# Altium schematic symbol library PowerProducts.SCHLIB: 595 symbols (part 1 of 6)
Pins are listed as number, name and electrical type; pins without a type are passive.

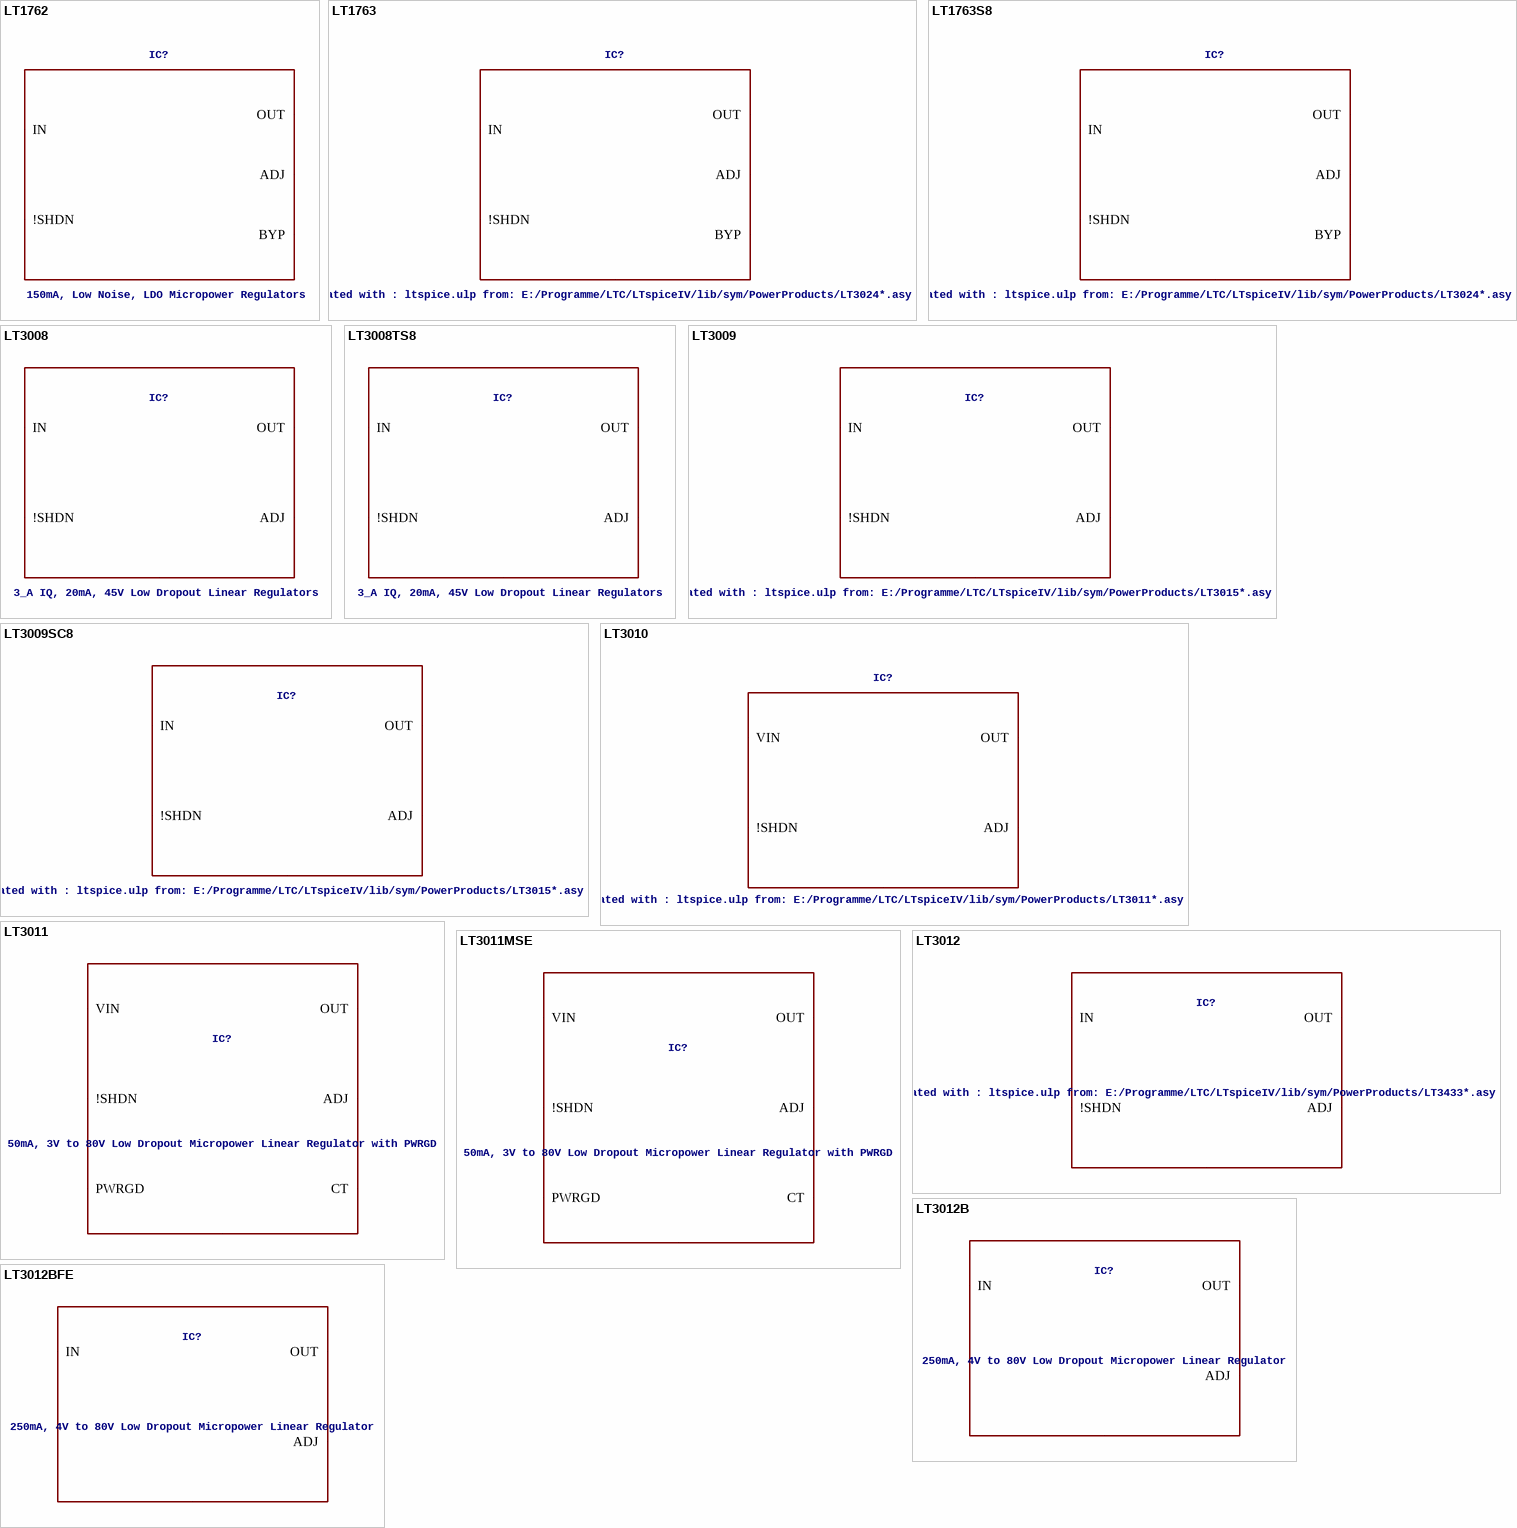
[diagram p0: symbols LT1762 to LT3012BFE]

## LT1762
designator IC?, comment 150mA, Low Noise, LDO Micropower Regulators
VALUE2: LT1762; SPICEMODEL: LT1762.lib; SPICEPREFIX: X
footprint MSOP8(MS8)
pins: 1 OUT, 2 ADJ, 3 BYP, 4 GND, 5 !SHDN, 8 IN

## LT1763
designator IC?, comment LT-Spice library generated with : ltspice.ulp from: E:/Programme/LTC/LTspiceIV/lib/sym/PowerProducts/LT3024*.asy at 05.10.2012 11:02:30
VALUE2: LT1762; SPICEMODEL: LT1762.lib; SPICEPREFIX: X
footprint DFN12(DE)
pins: 2 3 OUT, 5 ADJ, 6 BYP, 7 13 GND, 8 !SHDN, 10 11 IN

## LT1763S8
designator IC?, comment LT-Spice library generated with : ltspice.ulp from: E:/Programme/LTC/LTspiceIV/lib/sym/PowerProducts/LT3024*.asy at 05.10.2012 11:02:30
VALUE2: LT1762; SPICEMODEL: LT1762.lib; SPICEPREFIX: X
footprint SO8(S8)
pins: 1 OUT, 2 ADJ, 3 6 7 GND, 4 BYP, 5 !SHDN, 8 IN

## LT3008
designator IC?, comment 3_A IQ, 20mA, 45V Low Dropout Linear Regulators
VALUE2: LT1762; SPICEMODEL: LT1762.lib; SPICEPREFIX: X
footprint DFN6(DC)
pins: 1 ADJ, 2 3 OUT, 4 IN, 5 !SHDN, 6 7 GND

## LT3008TS8
designator IC?, comment 3_A IQ, 20mA, 45V Low Dropout Linear Regulators
VALUE2: LT1762; SPICEMODEL: LT1762.lib; SPICEPREFIX: X
footprint SOT8(TS8)
pins: 1 !SHDN, 2 3 4 GND, 5 IN, 6 OUT, 7 ADJ

## LT3009
designator IC?, comment LT-Spice library generated with : ltspice.ulp from: E:/Programme/LTC/LTspiceIV/lib/sym/PowerProducts/LT3015*.asy at 04.10.2012 16:24:12
VALUE2: LT1762; SPICEMODEL: LT1762.lib; SPICEPREFIX: X
footprint DFN6(DC)
pins: 1 ADJ, 2 3 OUT, 4 IN, 5 !SHDN, 6 7 GND

## LT3009SC8
designator IC?, comment LT-Spice library generated with : ltspice.ulp from: E:/Programme/LTC/LTspiceIV/lib/sym/PowerProducts/LT3015*.asy at 04.10.2012 16:24:12
VALUE2: LT1762; SPICEMODEL: LT1762.lib; SPICEPREFIX: X
footprint SOT8(SC8)
pins: 1 !SHDN, 2 3 4 GND, 5 IN, 6 OUT, 7 ADJ

## LT3010
designator IC?, comment LT-Spice library generated with : ltspice.ulp from: E:/Programme/LTC/LTspiceIV/lib/sym/PowerProducts/LT3011*.asy at 10.10.2012 15:22:15
VALUE2: LT3010; SPICEMODEL: LT3010.lib; SPICEPREFIX: X
footprint MSOP8(MS8E)
pins: 1 OUT, 2 ADJ, 4 9 GND, 5 !SHDN, 8 VIN

## LT3011
designator IC?, comment 50mA, 3V to 80V Low Dropout Micropower Linear Regulator with PWRGD
VALUE2: LT3011; SPICEMODEL: LT3010.lib; SPICEPREFIX: X
footprint DFN10(DD)
pins: 1 OUT, 2 ADJ, 3 11 GND, 5 PWRGD, 6 CT, 8 !SHDN, 10 VIN

## LT3011MSE
designator IC?, comment 50mA, 3V to 80V Low Dropout Micropower Linear Regulator with PWRGD
VALUE2: LT3011; SPICEMODEL: LT3010.lib; SPICEPREFIX: X
footprint MSOP12(MSE)
pins: 2 OUT, 3 ADJ, 4 13 GND, 6 PWRGD, 7 CT, 9 !SHDN, 11 VIN

## LT3012
designator IC?, comment LT-Spice library generated with : ltspice.ulp from: E:/Programme/LTC/LTspiceIV/lib/sym/PowerProducts/LT3433*.asy at 04.10.2012 16:36:49
VALUE2: LT1762; SPICEMODEL: LT1762.lib; SPICEPREFIX: X
footprint DFN12(DE)
pins: 2 3 OUT, 4 ADJ, 5 13 GND, 8 !SHDN, 10 11 IN

## LT3012B
designator IC?, comment 250mA, 4V to 80V Low Dropout Micropower Linear Regulator
VALUE2: LT1762; SPICEMODEL: LT1762.lib; SPICEPREFIX: X
footprint DFN12(DE)
pins: 2 3 OUT, 4 ADJ, 5 13 GND, 10 11 IN

## LT3012BFE
designator IC?, comment 250mA, 4V to 80V Low Dropout Micropower Linear Regulator
VALUE2: LT1762; SPICEMODEL: LT1762.lib; SPICEPREFIX: X
footprint TSSOP16BB(FE)
pins: 1 6 8 9 16 17 GND, 3 4 OUT, 5 ADJ, 13 14 IN

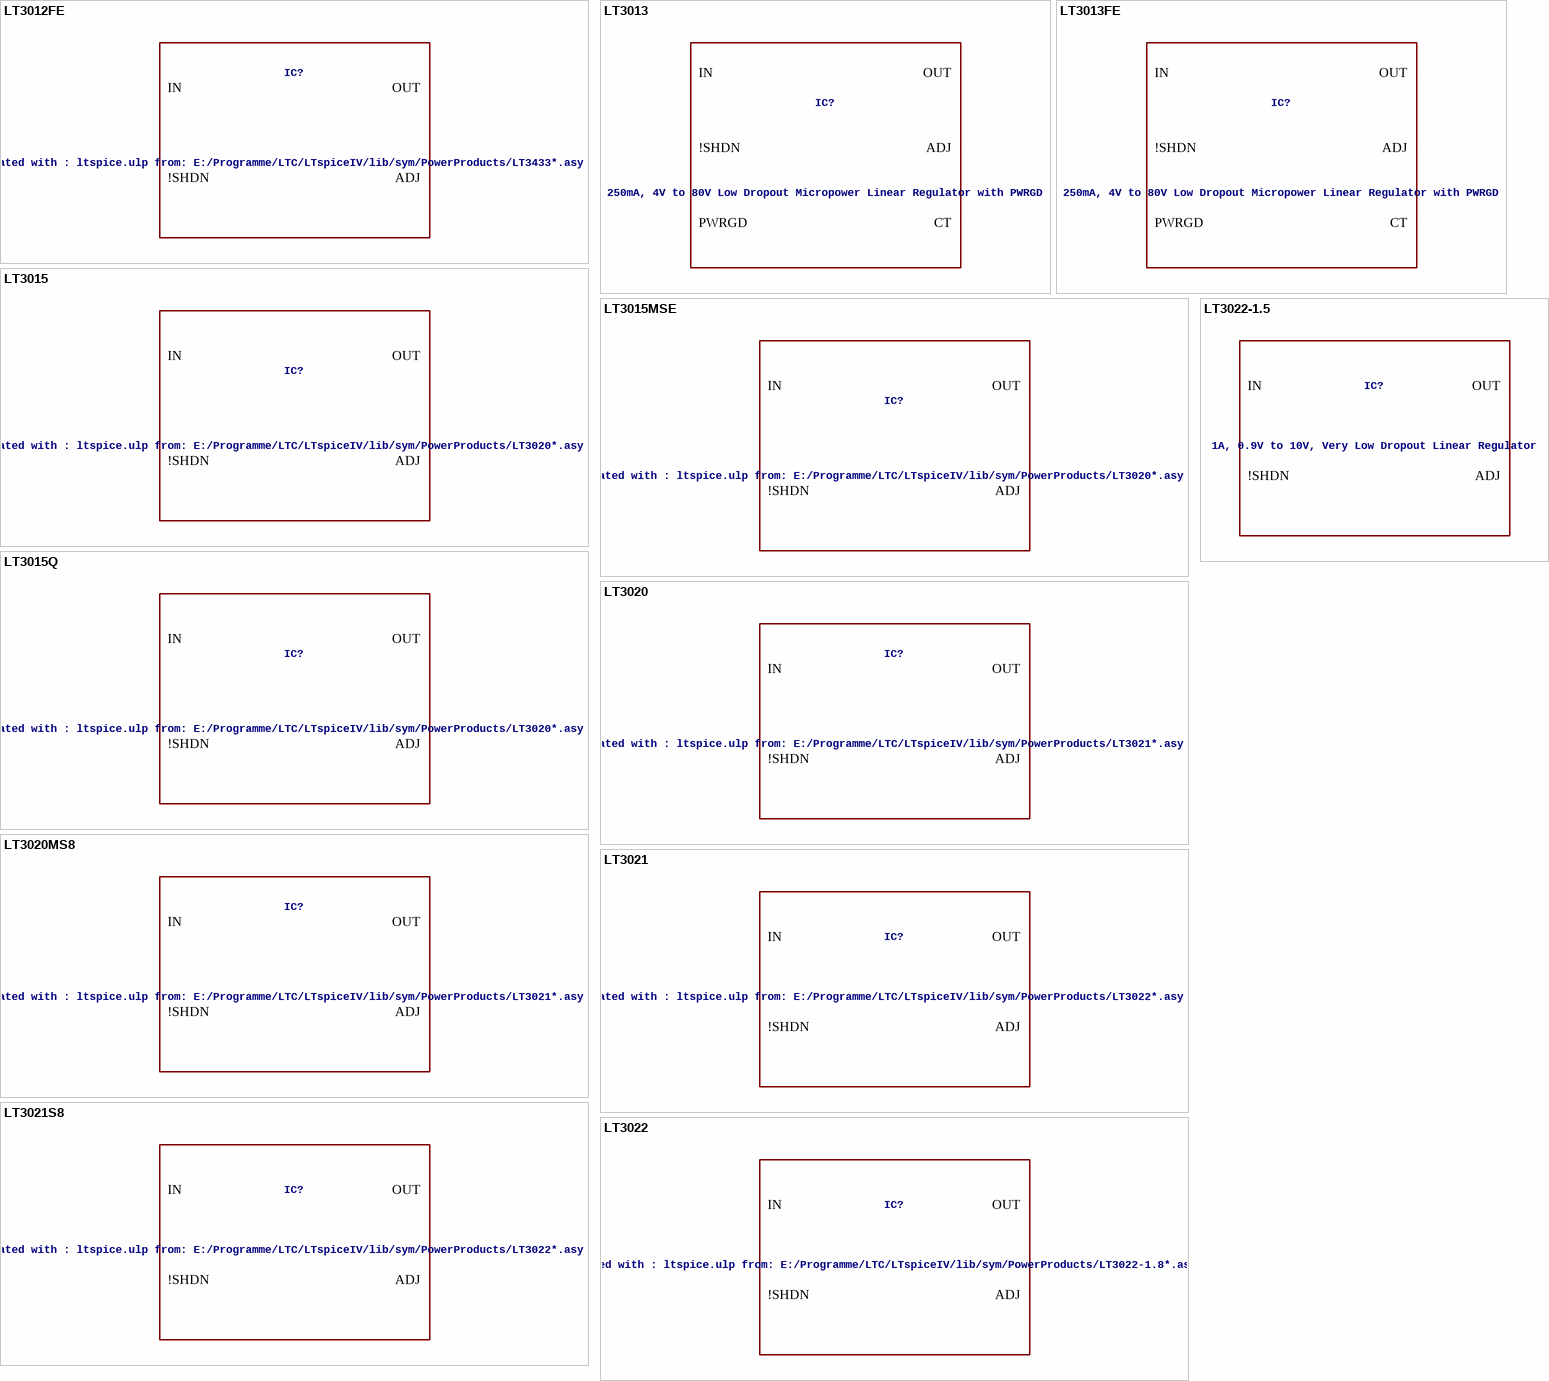
[diagram p1: symbols LT3012FE to LT3022-1.5]

## LT3012FE
designator IC?, comment LT-Spice library generated with : ltspice.ulp from: E:/Programme/LTC/LTspiceIV/lib/sym/PowerProducts/LT3433*.asy at 04.10.2012 16:36:49
VALUE2: LT1762; SPICEMODEL: LT1762.lib; SPICEPREFIX: X
footprint TSSOP16BB(FE)
pins: 1 6 8 9 16 17 GND, 3 4 OUT, 5 ADJ, 11 !SHDN, 13 14 IN

## LT3013
designator IC?, comment 250mA, 4V to 80V Low Dropout Micropower Linear Regulator with PWRGD
VALUE2: LT1762; SPICEMODEL: LT1762.lib; SPICEPREFIX: X
footprint DFN12(DE)
pins: 2 3 OUT, 4 ADJ, 5 13 GND, 6 PWRGD, 7 CT, 8 !SHDN, 10 11 IN

## LT3013FE
designator IC?, comment 250mA, 4V to 80V Low Dropout Micropower Linear Regulator with PWRGD
VALUE2: LT1762; SPICEMODEL: LT1762.lib; SPICEPREFIX: X
footprint TSSOP16BB(FE)
pins: 1 6 8 9 16 17 GND, 3 4 OUT, 5 ADJ, 7 PWRGD, 10 CT, 11 !SHDN, 13 14 IN

## LT3015
designator IC?, comment LT-Spice library generated with : ltspice.ulp from: E:/Programme/LTC/LTspiceIV/lib/sym/PowerProducts/LT3020*.asy at 04.10.2012 16:28:01
VALUE2: LT1762; SPICEMODEL: LT1762.lib; SPICEPREFIX: X
footprint DFN8(DD)
pins: 1 2 9 IN, 3 !SHDN, 4 5 GND, 6 ADJ, 7 8 OUT

## LT3015MSE
designator IC?, comment LT-Spice library generated with : ltspice.ulp from: E:/Programme/LTC/LTspiceIV/lib/sym/PowerProducts/LT3020*.asy at 04.10.2012 16:28:01
VALUE2: LT1762; SPICEMODEL: LT1762.lib; SPICEPREFIX: X
footprint MSOP12(MSE)
pins: 1 2 3 4 13 IN, 5 !SHDN, 6 7 GND, 8 ADJ, 9 10 11 12 OUT

## LT3015Q
designator IC?, comment LT-Spice library generated with : ltspice.ulp from: E:/Programme/LTC/LTspiceIV/lib/sym/PowerProducts/LT3020*.asy at 04.10.2012 16:28:01
VALUE2: LT1762; SPICEMODEL: LT1762.lib; SPICEPREFIX: X
footprint DDPAK5(Q)
pins: 1 !SHDN, 2 GND, 3 TAB IN, 4 ADJ, 5 OUT

## LT3020
designator IC?, comment LT-Spice library generated with : ltspice.ulp from: E:/Programme/LTC/LTspiceIV/lib/sym/PowerProducts/LT3021*.asy at 04.10.2012 16:28:37
VALUE2: LT1762; SPICEMODEL: LT1762.lib; SPICEPREFIX: X
footprint DFN8(DD)
pins: 1 2 OUT, 3 ADJ, 4 9 GND, 5 !SHDN, 7 8 IN

## LT3020MS8
designator IC?, comment LT-Spice library generated with : ltspice.ulp from: E:/Programme/LTC/LTspiceIV/lib/sym/PowerProducts/LT3021*.asy at 04.10.2012 16:28:37
VALUE2: LT1762; SPICEMODEL: LT1762.lib; SPICEPREFIX: X
footprint MSOP8(MS8)
pins: 1 2 OUT, 3 ADJ, 4 GND, 5 !SHDN, 7 8 IN

## LT3021
designator IC?, comment LT-Spice library generated with : ltspice.ulp from: E:/Programme/LTC/LTspiceIV/lib/sym/PowerProducts/LT3022*.asy at 04.10.2012 16:29:02
VALUE2: LT1762; SPICEMODEL: LT1762.lib; SPICEPREFIX: X
footprint DFN16(DHC)
pins: 3 4 OUT, 7 ADJ, 8 10 17 GND, 9 !SHDN, 12 14 IN

## LT3021S8
designator IC?, comment LT-Spice library generated with : ltspice.ulp from: E:/Programme/LTC/LTspiceIV/lib/sym/PowerProducts/LT3022*.asy at 04.10.2012 16:29:02
VALUE2: LT1762; SPICEMODEL: LT1762.lib; SPICEPREFIX: X
footprint SO8(S8)
pins: 2 OUT, 3 ADJ, 4 6 GND, 5 !SHDN, 8 IN

## LT3022
designator IC?, comment LT-Spice library generated with : ltspice.ulp from: E:/Programme/LTC/LTspiceIV/lib/sym/PowerProducts/LT3022-1.8*.asy at 04.10.2012 16:29:17
VALUE2: LT1762; SPICEMODEL: LT1762.lib; SPICEPREFIX: X
footprint DFN16(DHC)
pins: 3 4 OUT, 5 ADJ, 6 7 10 11 17 GND, 9 !SHDN, 12 13 14 IN

## LT3022-1.5
designator IC?, comment 1A, 0.9V to 10V, Very Low Dropout Linear Regulator
VALUE2: LT1762; SPICEMODEL: LT1762.lib; SPICEPREFIX: X
footprint MSOP16(MSE)
pins: 3 4 OUT, 5 ADJ, 6 7 10 11 17 GND, 9 !SHDN, 12 13 14 IN

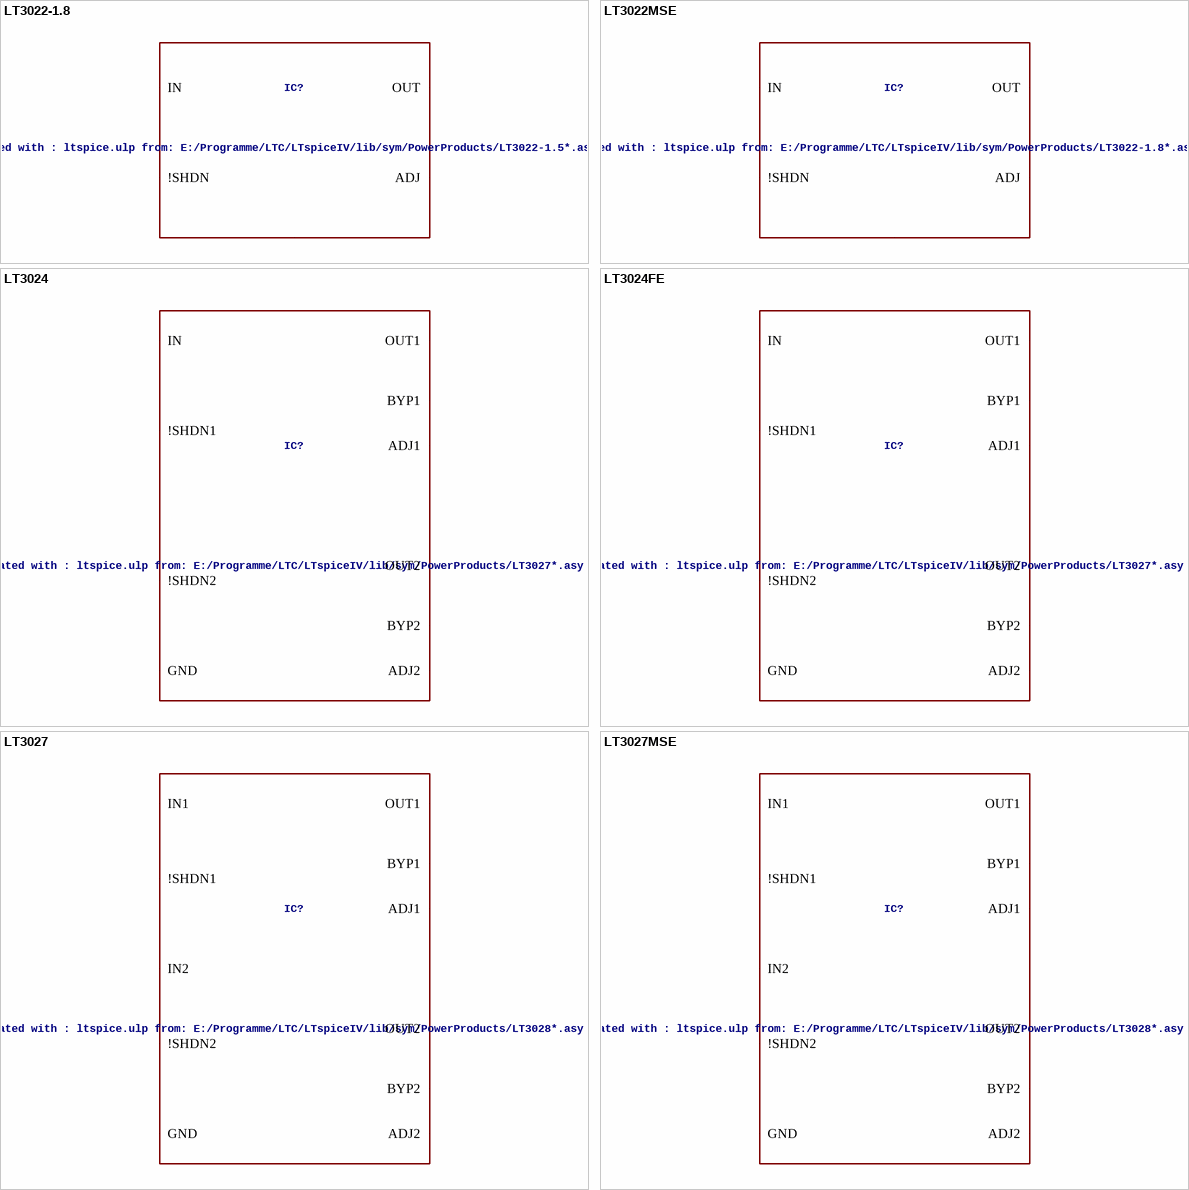
[diagram p2: symbols LT3022-1.8 to LT3027MSE]

## LT3022-1.8
designator IC?, comment LT-Spice library generated with : ltspice.ulp from: E:/Programme/LTC/LTspiceIV/lib/sym/PowerProducts/LT3022-1.5*.asy at 04.10.2012 16:29:40
VALUE2: LT1762; SPICEMODEL: LT1762.lib; SPICEPREFIX: X
footprint MSOP16(MSE)
pins: 3 4 OUT, 5 ADJ, 6 7 10 11 17 GND, 9 !SHDN, 12 13 14 IN

## LT3022MSE
designator IC?, comment LT-Spice library generated with : ltspice.ulp from: E:/Programme/LTC/LTspiceIV/lib/sym/PowerProducts/LT3022-1.8*.asy at 04.10.2012 16:29:17
VALUE2: LT1762; SPICEMODEL: LT1762.lib; SPICEPREFIX: X
footprint MSOP16(MSE)
pins: 3 4 OUT, 5 ADJ, 6 7 10 11 17 GND, 9 !SHDN, 12 13 14 IN

## LT3024
designator IC?, comment LT-Spice library generated with : ltspice.ulp from: E:/Programme/LTC/LTspiceIV/lib/sym/PowerProducts/LT3027*.asy at 05.10.2012 11:02:51
VALUE2: LT1762; SPICEMODEL: LT1762.lib; SPICEPREFIX: X
footprint DFN12(DE)
pins: 1 BYP1, 2 3 OUT1, 4 13 GND, 5 OUT2, 6 BYP2, 7 ADJ2, 8 !SHDN2, 9 10 IN, 11 !SHDN1, 12 ADJ1

## LT3024FE
designator IC?, comment LT-Spice library generated with : ltspice.ulp from: E:/Programme/LTC/LTspiceIV/lib/sym/PowerProducts/LT3027*.asy at 05.10.2012 11:02:51
VALUE2: LT1762; SPICEMODEL: LT1762.lib; SPICEPREFIX: X
footprint TSSOP16BB(FE)
pins: 1 5 8 9 16 17 GND, 2 BYP1, 3 4 OUT1, 6 OUT2, 7 BYP2, 10 ADJ2, 11 !SHDN2, 12 13 IN, 14 !SHDN1, 15 ADJ1

## LT3027
designator IC?, comment LT-Spice library generated with : ltspice.ulp from: E:/Programme/LTC/LTspiceIV/lib/sym/PowerProducts/LT3028*.asy at 05.10.2012 11:03:02
VALUE2: LT1762; SPICEMODEL: LT1762.lib; SPICEPREFIX: X
footprint DFN10(DD)
pins: 1 BYP2, 2 ADJ2, 3 !SHDN2, 4 ADJ1, 5 BYP1, 6 OUT1, 7 !SHDN1, 8 IN1, 9 IN2, 10 OUT2, 11 GND

## LT3027MSE
designator IC?, comment LT-Spice library generated with : ltspice.ulp from: E:/Programme/LTC/LTspiceIV/lib/sym/PowerProducts/LT3028*.asy at 05.10.2012 11:03:02
VALUE2: LT1762; SPICEMODEL: LT1762.lib; SPICEPREFIX: X
footprint MSOP10(MSE)
pins: 1 BYP2, 2 ADJ2, 3 !SHDN2, 4 ADJ1, 5 BYP1, 6 OUT1, 7 !SHDN1, 8 IN1, 9 IN2, 10 OUT2, 11 GND

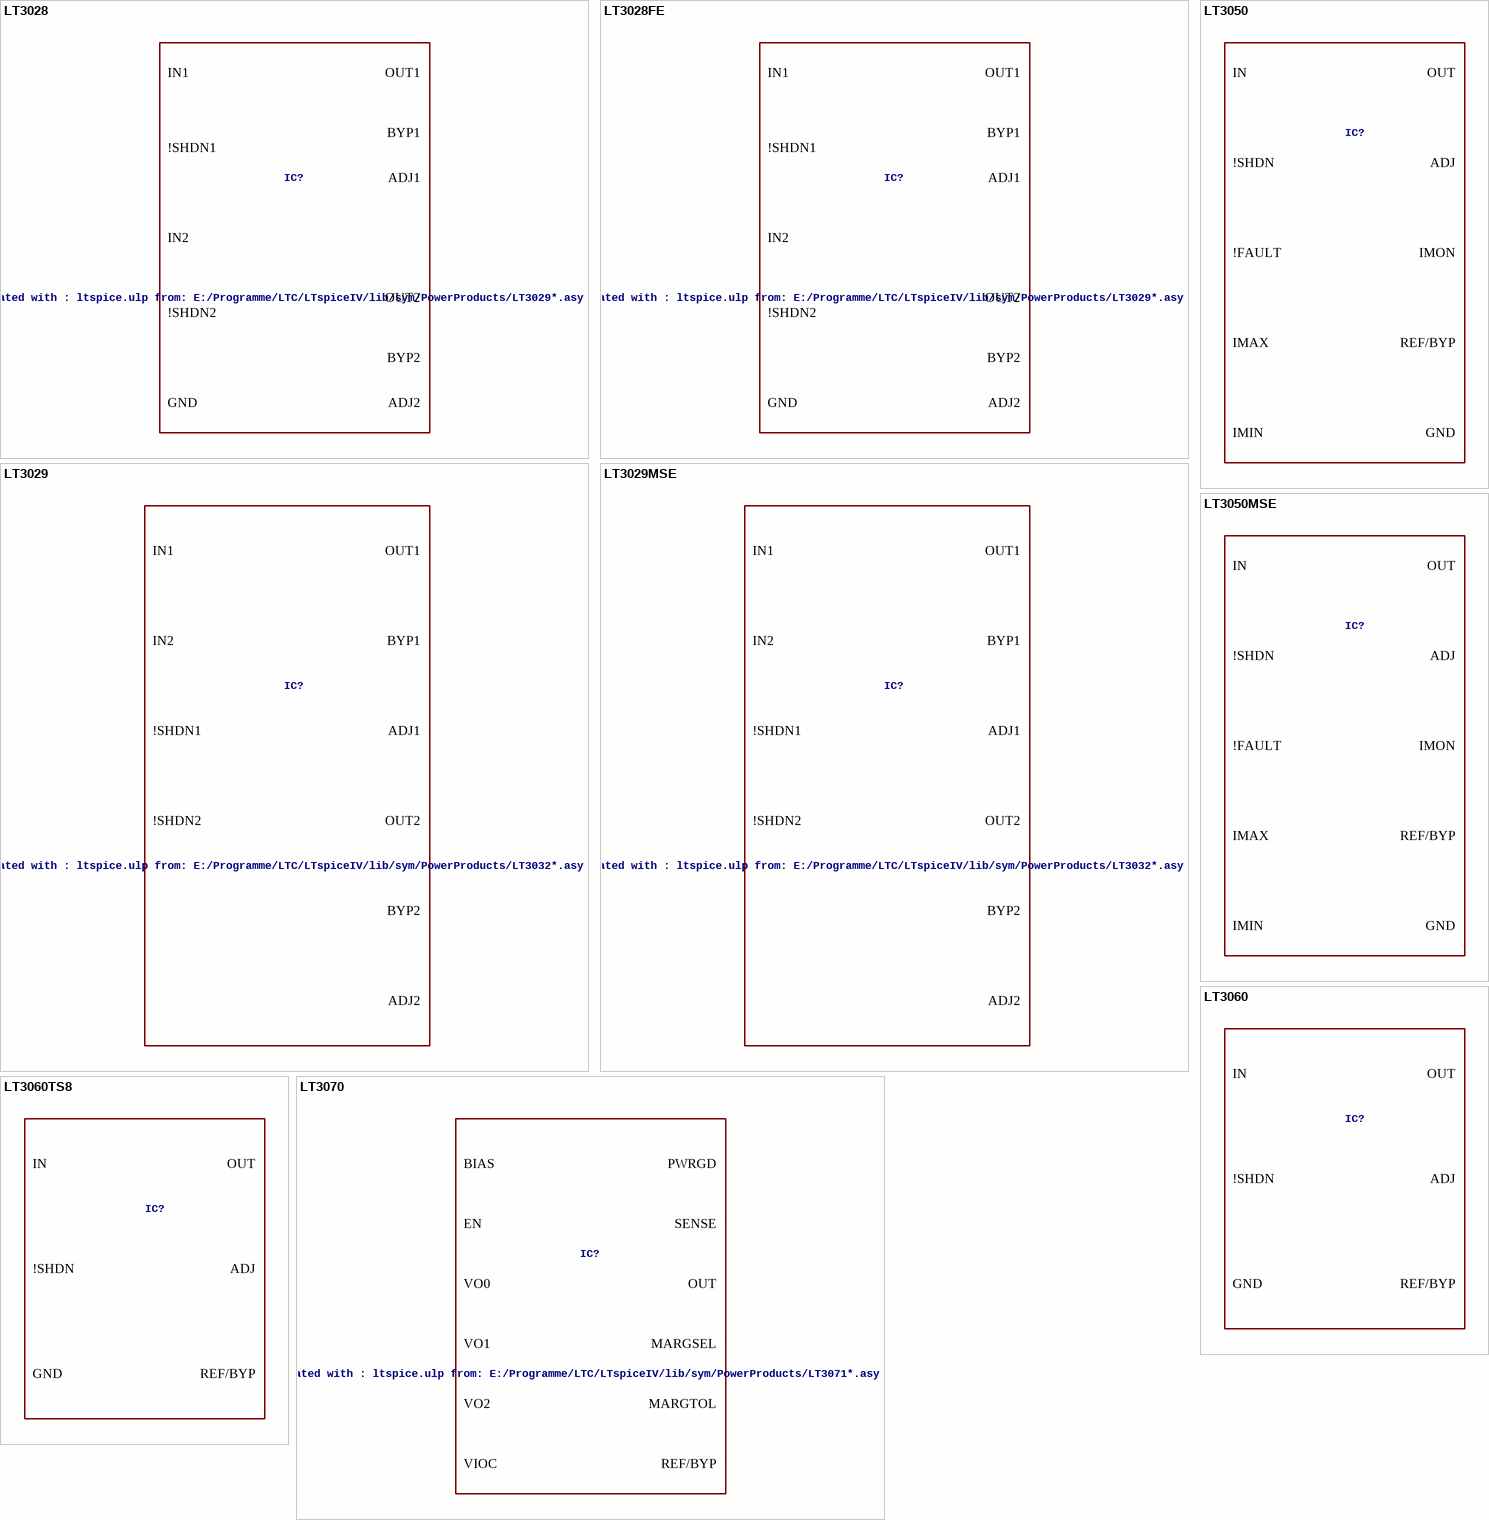
[diagram p3: symbols LT3028 to LT3070]

## LT3028
designator IC?, comment LT-Spice library generated with : ltspice.ulp from: E:/Programme/LTC/LTspiceIV/lib/sym/PowerProducts/LT3029*.asy at 05.10.2012 11:03:15
VALUE2: LT1762; SPICEMODEL: LT1762.lib; SPICEPREFIX: X
footprint DFN16(DHC)
pins: 1 5 8 9 16 17 GND, 2 BYP1, 3 4 OUT1, 6 OUT2, 7 BYP2, 10 ADJ2, 11 !SHDN2, 12 IN2, 13 IN1, 14 !SHDN1, 15 ADJ1

## LT3028FE
designator IC?, comment LT-Spice library generated with : ltspice.ulp from: E:/Programme/LTC/LTspiceIV/lib/sym/PowerProducts/LT3029*.asy at 05.10.2012 11:03:15
VALUE2: LT1762; SPICEMODEL: LT1762.lib; SPICEPREFIX: X
footprint TSSOP16BB(FE)
pins: 1 BYP1, 3 4 OUT1, 5 17 GND, 6 7 OUT2, 8 BYP2, 9 ADJ2, 10 !SHDN2, 11 12 IN2, 13 14 IN1, 15 !SHDN1, 16 ADJ1

## LT3029
designator IC?, comment LT-Spice library generated with : ltspice.ulp from: E:/Programme/LTC/LTspiceIV/lib/sym/PowerProducts/LT3032*.asy at 05.10.2012 11:03:26
VALUE2: LT1762; SPICEMODEL: LT1763.lib; SPICEPREFIX: X
footprint DFN16(DE)
pins: 1 BYP1, 3 4 OUT1, 5 17 GND, 6 7 OUT2, 8 BYP2, 9 ADJ2, 10 !SHDN2, 11 12 IN2, 13 14 IN1, 15 !SHDN1, 16 ADJ1

## LT3029MSE
designator IC?, comment LT-Spice library generated with : ltspice.ulp from: E:/Programme/LTC/LTspiceIV/lib/sym/PowerProducts/LT3032*.asy at 05.10.2012 11:03:26
VALUE2: LT1762; SPICEMODEL: LT1763.lib; SPICEPREFIX: X
footprint MSOP16(MSE)
pins: 1 BYP1, 3 4 OUT1, 5 17 GND, 6 7 OUT2, 8 BYP2, 9 ADJ2, 10 !SHDN2, 11 12 IN2, 13 14 IN1, 15 !SHDN1, 16 ADJ1

## LT3050
designator IC?, comment LT-Spice library generated with : ltspice.ulp from: E:/Programme/LTC/LTspiceIV/lib/sym/PowerProducts/LT3060*.asy at 05.10.2012 11:07:26  (value not drawn)
VALUE2: LT1762; SPICEMODEL: LT1762.lib; SPICEPREFIX: X
footprint DFN12(DDB)
pins: 1 REF/BYP, 2 IMIN, 3 !FAULT, 4 !SHDN, 5 6 IN, 7 8 OUT, 9 ADJ, 10 13 GND, 11 IMAX, 12 IMON

## LT3050MSE
designator IC?, comment LT-Spice library generated with : ltspice.ulp from: E:/Programme/LTC/LTspiceIV/lib/sym/PowerProducts/LT3060*.asy at 05.10.2012 11:07:26  (value not drawn)
VALUE2: LT1762; SPICEMODEL: LT1762.lib; SPICEPREFIX: X
footprint MSOP12(MSE)
pins: 1 REF/BYP, 2 IMIN, 3 !FAULT, 4 !SHDN, 5 6 IN, 7 8 OUT, 9 ADJ, 10 13 GND, 11 IMAX, 12 IMON

## LT3060
designator IC?, comment LT-Spice library generated with : ltspice.ulp from: E:/Programme/LTC/LTspiceIV/lib/sym/PowerProducts/LT3070*.asy at 05.10.2012 11:07:38  (value not drawn)
VALUE2: LT1762; SPICEMODEL: LT1762.lib; SPICEPREFIX: X
footprint DFN8(DC)
pins: 1 REF/BYP, 2 ADJ, 3 4 OUT, 5 6 IN, 7 !SHDN, 8 9 GND

## LT3060TS8
designator IC?, comment LT-Spice library generated with : ltspice.ulp from: E:/Programme/LTC/LTspiceIV/lib/sym/PowerProducts/LT3070*.asy at 05.10.2012 11:07:38  (value not drawn)
VALUE2: LT1762; SPICEMODEL: LT1762.lib; SPICEPREFIX: X
footprint SOT8(TS8)
pins: 1 !SHDN, 2 3 4 GND, 5 IN, 6 OUT, 7 ADJ, 8 REF/BYP

## LT3070
designator IC?, comment LT-Spice library generated with : ltspice.ulp from: E:/Programme/LTC/LTspiceIV/lib/sym/PowerProducts/LT3071*.asy at 05.10.2012 11:07:49
VALUE2: LT1762; SPICEMODEL: LT1762.lib; SPICEPREFIX: X
footprint QFN28(UFD)
pins: 1 VIOC, 2 PWRGD, 3 REF/BYP, 4 9 10 11 12 13 14 20 26 29 GND, 5 6 7 8 16 17 18 IN, 15 OUT, 19 SENSE, 21 MARGSEL, 22 MARGTOL, 23 VO0, 24 VO1, 25 VO2, 27 BIAS, 28 EN

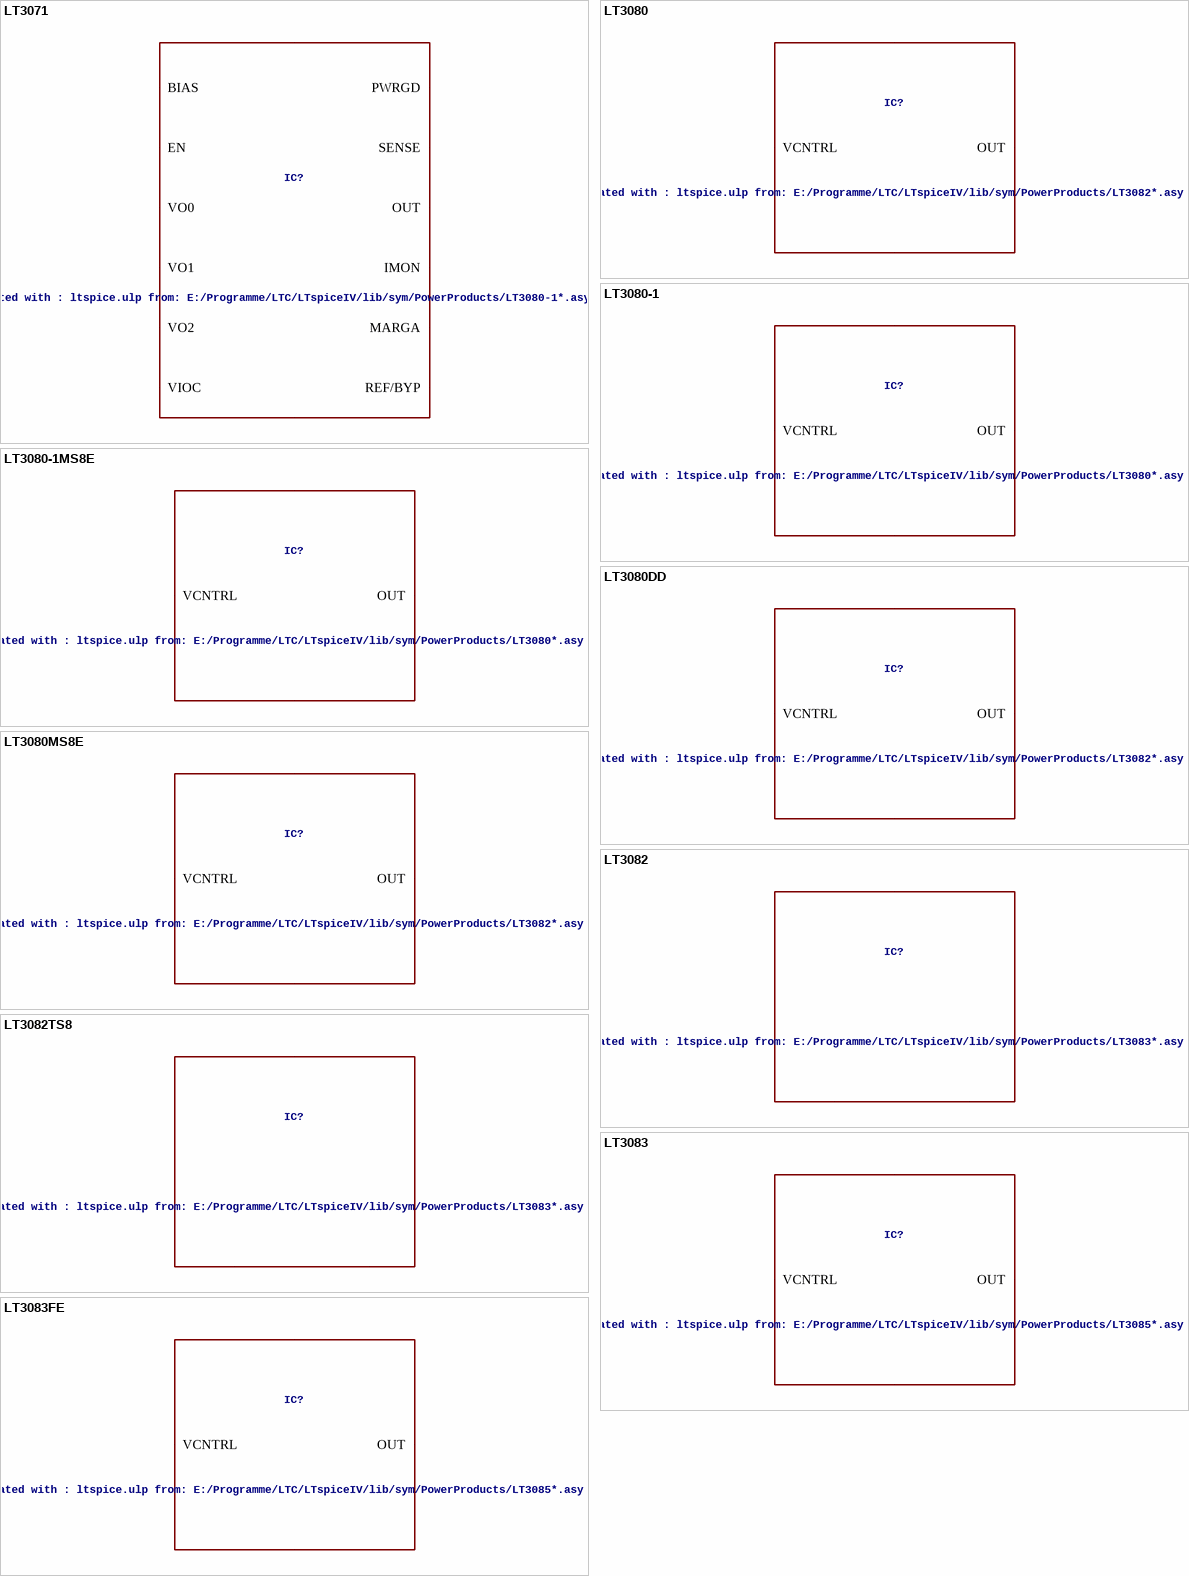
[diagram p4: symbols LT3071 to LT3083FE]

## LT3071
designator IC?, comment LT-Spice library generated with : ltspice.ulp from: E:/Programme/LTC/LTspiceIV/lib/sym/PowerProducts/LT3080-1*.asy at 05.10.2012 11:08:12
VALUE2: LT1762; SPICEMODEL: LT1762.lib; SPICEPREFIX: X
footprint QFN28(UFD)
pins: 1 VIOC, 2 PWRGD, 3 REF/BYP, 4 9 10 11 12 13 14 20 26 29 GND, 5 6 7 8 16 17 18 IN, 15 OUT, 19 SENSE, 21 IMON, 22 MARGA, 23 VO0, 24 VO1, 25 VO2, 27 BIAS, 28 EN

## LT3080
designator IC?, comment LT-Spice library generated with : ltspice.ulp from: E:/Programme/LTC/LTspiceIV/lib/sym/PowerProducts/LT3082*.asy at 05.10.2012 11:08:40
VALUE2: LT1762; SPICEMODEL: LT1762.lib; SPICEPREFIX: X
footprint DDPAK5(Q)
pins: 2 SET, 3 TAB OUT, 4 VCNTRL, 5 IN

## LT3080-1
designator IC?, comment LT-Spice library generated with : ltspice.ulp from: E:/Programme/LTC/LTspiceIV/lib/sym/PowerProducts/LT3080*.asy at 05.10.2012 11:08:24
VALUE2: LT1762; SPICEMODEL: LT1762.lib; SPICEPREFIX: X
footprint DFN8(DD)
pins: 1 2 3 9 OUT, 4 SET, 5 VCNTRL, 7 8 IN

## LT3080-1MS8E
designator IC?, comment LT-Spice library generated with : ltspice.ulp from: E:/Programme/LTC/LTspiceIV/lib/sym/PowerProducts/LT3080*.asy at 05.10.2012 11:08:24
VALUE2: LT1762; SPICEMODEL: LT1762.lib; SPICEPREFIX: X
footprint MSOP8(MS8E)
pins: 1 2 3 9 OUT, 4 SET, 5 VCNTRL, 7 8 IN

## LT3080DD
designator IC?, comment LT-Spice library generated with : ltspice.ulp from: E:/Programme/LTC/LTspiceIV/lib/sym/PowerProducts/LT3082*.asy at 05.10.2012 11:08:40
VALUE2: LT1762; SPICEMODEL: LT1762.lib; SPICEPREFIX: X
footprint DFN8(DD)
pins: 1 2 3 9 OUT, 4 SET, 5 VCNTRL, 7 8 IN

## LT3080MS8E
designator IC?, comment LT-Spice library generated with : ltspice.ulp from: E:/Programme/LTC/LTspiceIV/lib/sym/PowerProducts/LT3082*.asy at 05.10.2012 11:08:40
VALUE2: LT1762; SPICEMODEL: LT1762.lib; SPICEPREFIX: X
footprint MSOP8(MS8E)
pins: 1 2 3 9 OUT, 4 SET, 5 VCNTRL, 7 8 IN

## LT3082
designator IC?, comment LT-Spice library generated with : ltspice.ulp from: E:/Programme/LTC/LTspiceIV/lib/sym/PowerProducts/LT3083*.asy at 05.10.2012 11:10:03
VALUE2: LT1762; SPICEMODEL: LT1762.lib; SPICEPREFIX: X
footprint DFN8(DD)
pins: 1 2 9 OUT, 4 SET, 7 8 IN

## LT3082TS8
designator IC?, comment LT-Spice library generated with : ltspice.ulp from: E:/Programme/LTC/LTspiceIV/lib/sym/PowerProducts/LT3083*.asy at 05.10.2012 11:10:03
VALUE2: LT1762; SPICEMODEL: LT1762.lib; SPICEPREFIX: X
footprint SOT8(TS8)
pins: 2 3 4 OUT, 5 SET, 7 8 IN

## LT3083
designator IC?, comment LT-Spice library generated with : ltspice.ulp from: E:/Programme/LTC/LTspiceIV/lib/sym/PowerProducts/LT3085*.asy at 05.10.2012 11:10:12
VALUE2: LT1762; SPICEMODEL: LT1762.lib; SPICEPREFIX: X
footprint DFN12(DF)
pins: 1 2 3 4 5 13 OUT, 6 SET, 7 8 VCNTRL, 9 10 11 12 IN

## LT3083FE
designator IC?, comment LT-Spice library generated with : ltspice.ulp from: E:/Programme/LTC/LTspiceIV/lib/sym/PowerProducts/LT3085*.asy at 05.10.2012 11:10:12
VALUE2: LT1762; SPICEMODEL: LT1762.lib; SPICEPREFIX: X
footprint TSSOP16BB(FE)
pins: 1 2 3 4 5 6 8 9 16 17 OUT, 7 SET, 10 11 VCNTRL, 12 13 14 15 IN

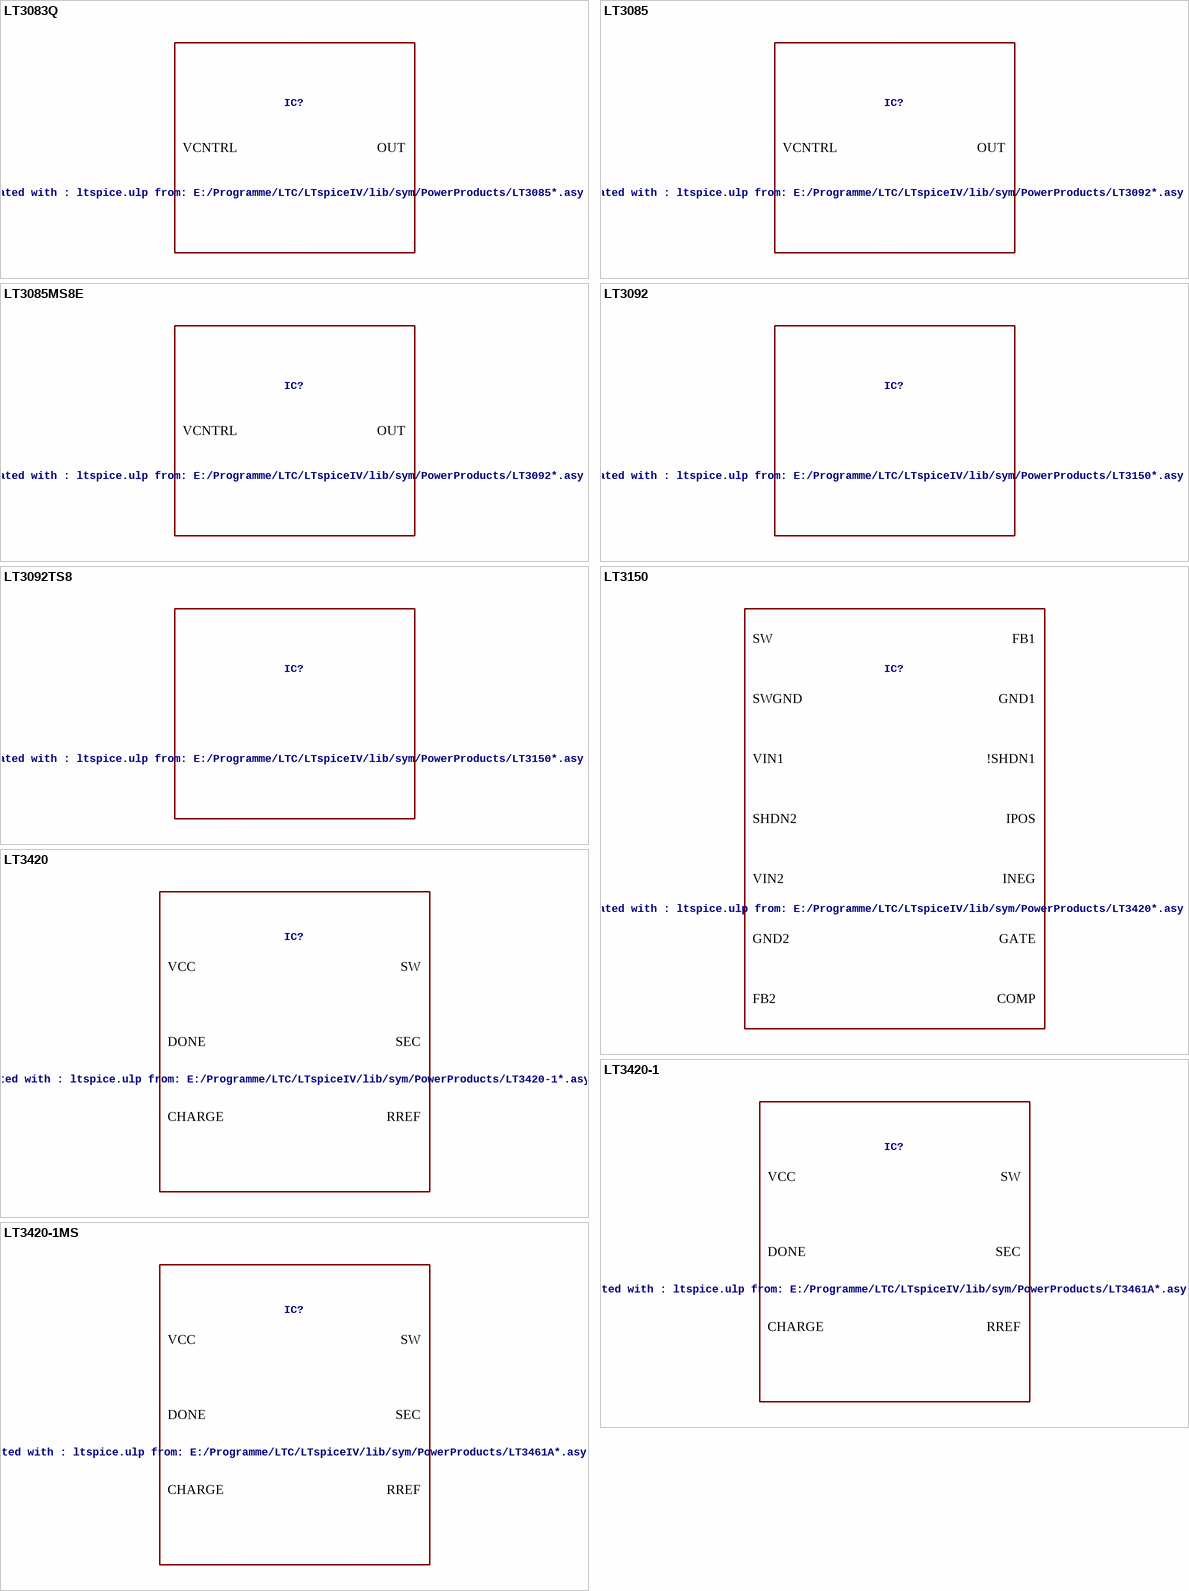
[diagram p5: symbols LT3083Q to LT3420-1MS]

## LT3083Q
designator IC?, comment LT-Spice library generated with : ltspice.ulp from: E:/Programme/LTC/LTspiceIV/lib/sym/PowerProducts/LT3085*.asy at 05.10.2012 11:10:12
VALUE2: LT1762; SPICEMODEL: LT1762.lib; SPICEPREFIX: X
footprint DDPAK5(Q)
pins: 2 SET, 3 TAB OUT, 4 VCNTRL, 5 IN

## LT3085
designator IC?, comment LT-Spice library generated with : ltspice.ulp from: E:/Programme/LTC/LTspiceIV/lib/sym/PowerProducts/LT3092*.asy at 05.10.2012 11:10:39
VALUE2: LT1762; SPICEMODEL: LT1762.lib; SPICEPREFIX: X
footprint DFN6(DCB)
pins: 1 2 7 OUT, 3 SET, 4 VCNTRL, 5 6 IN

## LT3085MS8E
designator IC?, comment LT-Spice library generated with : ltspice.ulp from: E:/Programme/LTC/LTspiceIV/lib/sym/PowerProducts/LT3092*.asy at 05.10.2012 11:10:39
VALUE2: LT1762; SPICEMODEL: LT1762.lib; SPICEPREFIX: X
footprint MSOP8(MS8E)
pins: 1 2 3 9 OUT, 4 SET, 5 VCNTRL, 7 8 IN

## LT3092
designator IC?, comment LT-Spice library generated with : ltspice.ulp from: E:/Programme/LTC/LTspiceIV/lib/sym/PowerProducts/LT3150*.asy at 05.10.2012 11:11:42
VALUE2: LT1762; SPICEMODEL: LT1762.lib; SPICEPREFIX: X
footprint DFN8(DD)
pins: 1 2 9 OUT, 4 SET, 7 8 IN

## LT3092TS8
designator IC?, comment LT-Spice library generated with : ltspice.ulp from: E:/Programme/LTC/LTspiceIV/lib/sym/PowerProducts/LT3150*.asy at 05.10.2012 11:11:42
VALUE2: LT1762; SPICEMODEL: LT1762.lib; SPICEPREFIX: X
footprint SOT8(TS8)
pins: 2 3 4 OUT, 5 SET, 7 8 IN

## LT3150
designator IC?, comment LT-Spice library generated with : ltspice.ulp from: E:/Programme/LTC/LTspiceIV/lib/sym/PowerProducts/LT3420*.asy at 05.10.2012 11:12:07
VALUE2: LT1762; SPICEMODEL: LT1762.lib; SPICEPREFIX: X
footprint SSOP16(GN)
pins: 1 SW, 2 SWGND, 3 VIN1, 4 SHDN2, 5 VIN2, 6 GND1, 8 FB2, 9 COMP, 11 GATE, 12 INEG, 13 IPOS, 14 !SHDN1, 15 GND2, 16 FB1

## LT3420
designator IC?, comment LT-Spice library generated with : ltspice.ulp from: E:/Programme/LTC/LTspiceIV/lib/sym/PowerProducts/LT3420-1*.asy at 05.10.2012 11:12:22
VALUE2: LT1762; SPICEMODEL: LT1762.lib; SPICEPREFIX: X
footprint DFN10(DD)
pins: 1 RREF, 2 VBAT, 3 RFB, 4 VCC, 5 11 GND, 6 SW, 7 SEC, 8 DONE, 9 CHARGE, 10 CT

## LT3420-1
designator IC?, comment LT-Spice library generated with : ltspice.ulp from: E:/Programme/LTC/LTspiceIV/lib/sym/PowerProducts/LT3461A*.asy at 05.10.2012 11:13:02
VALUE2: LT1762; SPICEMODEL: LT1762.lib; SPICEPREFIX: X
footprint DFN10(DD)
pins: 1 RREF, 2 VBAT, 3 RFB, 4 VCC, 5 11 GND, 6 SW, 7 SEC, 8 DONE, 9 CHARGE, 10 CT

## LT3420-1MS
designator IC?, comment LT-Spice library generated with : ltspice.ulp from: E:/Programme/LTC/LTspiceIV/lib/sym/PowerProducts/LT3461A*.asy at 05.10.2012 11:13:02
VALUE2: LT1762; SPICEMODEL: LT1762.lib; SPICEPREFIX: X
footprint MSOP10(MS)
pins: 1 RREF, 2 VBAT, 3 RFB, 4 VCC, 5 GND, 6 SW, 7 SEC, 8 DONE, 9 CHARGE, 10 CT

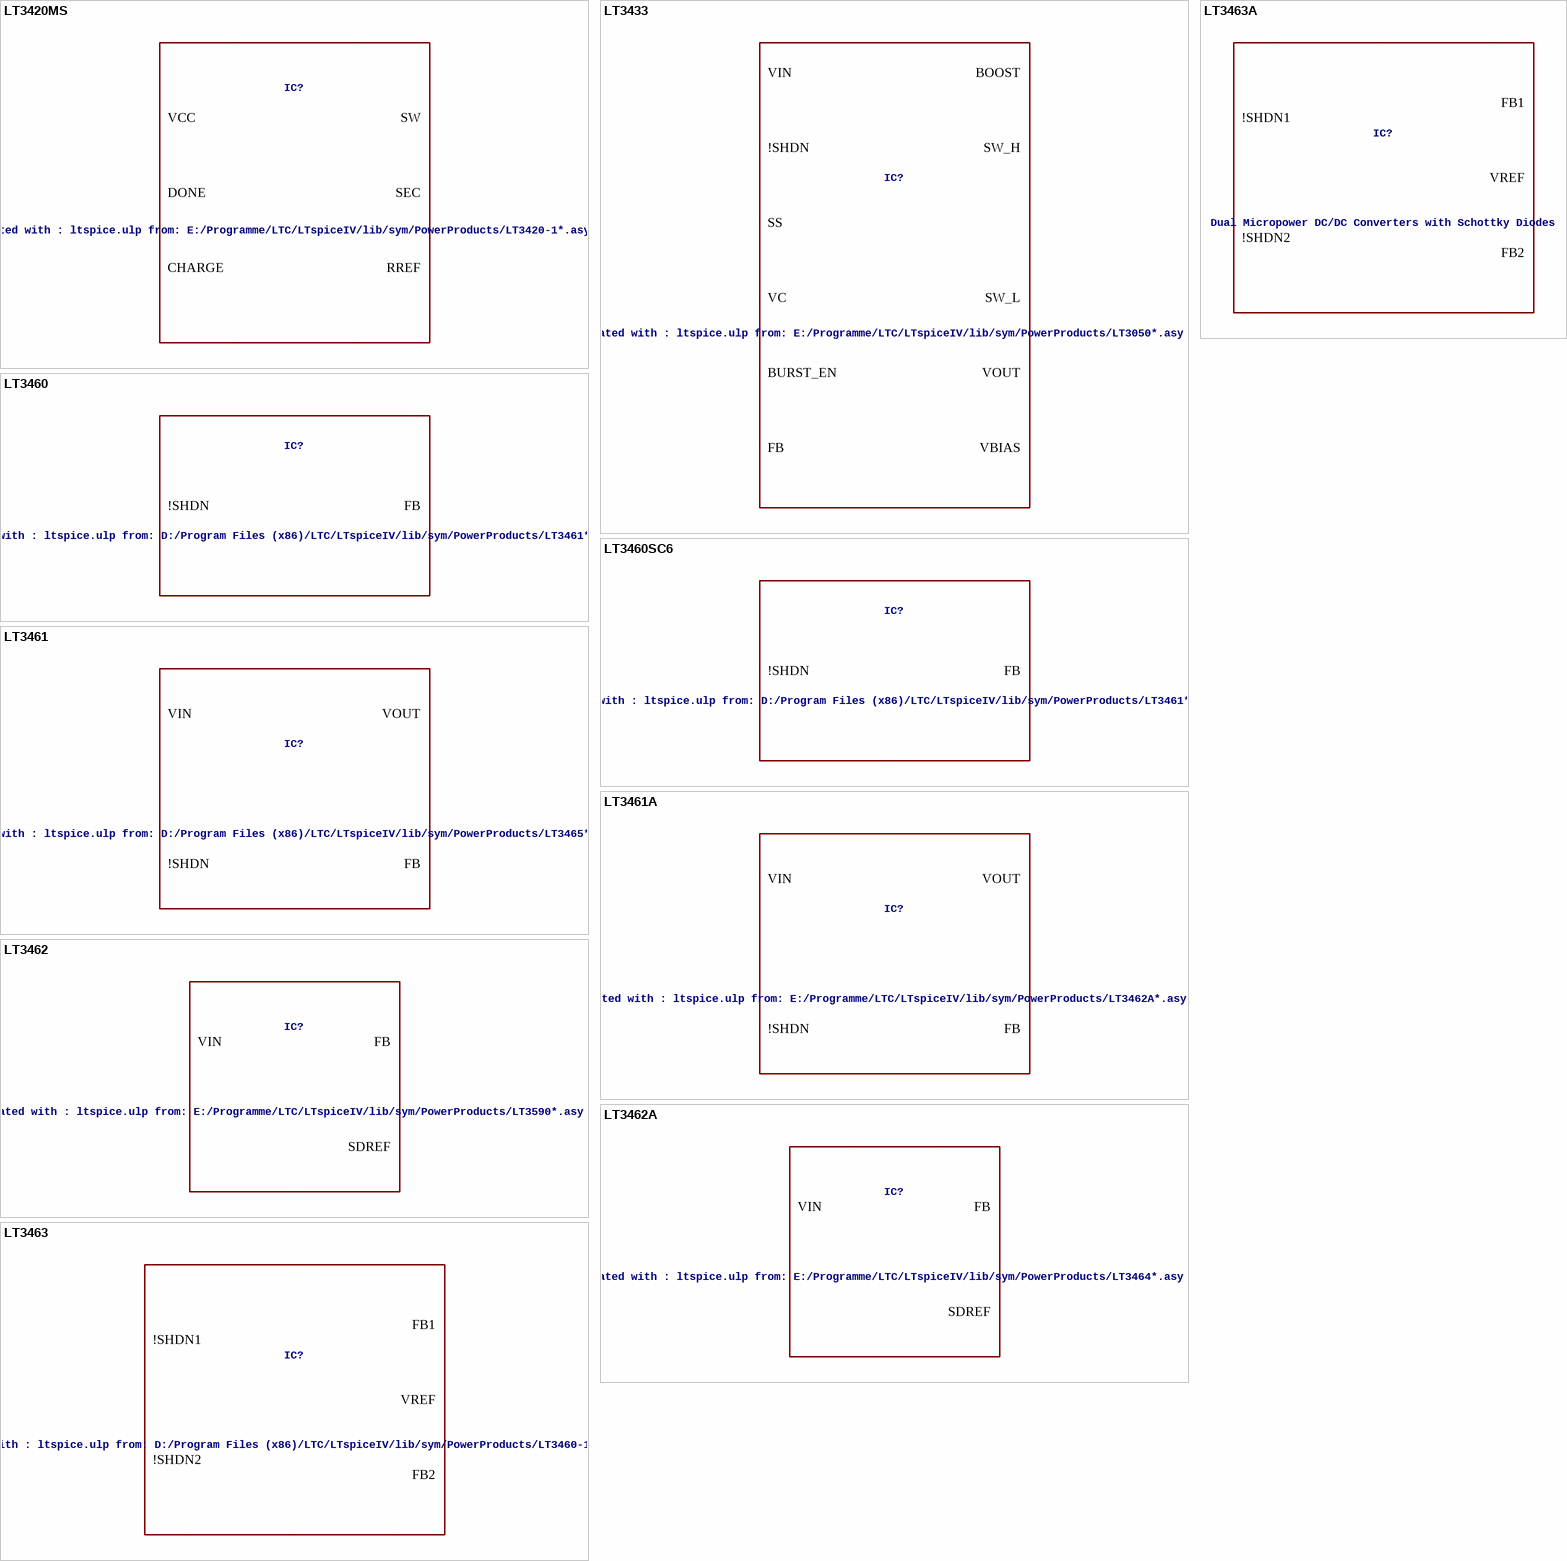
[diagram p6: symbols LT3420MS to LT3463A]

## LT3420MS
designator IC?, comment LT-Spice library generated with : ltspice.ulp from: E:/Programme/LTC/LTspiceIV/lib/sym/PowerProducts/LT3420-1*.asy at 05.10.2012 11:12:22
VALUE2: LT1762; SPICEMODEL: LT1762.lib; SPICEPREFIX: X
footprint MSOP10(MS)
pins: 1 RREF, 2 VBAT, 3 RFB, 4 VCC, 5 GND, 6 SW, 7 SEC, 8 DONE, 9 CHARGE, 10 CT

## LT3433
designator IC?, comment LT-Spice library generated with : ltspice.ulp from: E:/Programme/LTC/LTspiceIV/lib/sym/PowerProducts/LT3050*.asy at 05.10.2012 11:06:37
VALUE2: LT1762; SPICEMODEL: LT1762.lib; SPICEPREFIX: X
footprint TSSOP16BB(FE)
pins: 1 8 9 16 17 SGND, 2 BOOST, 3 SW_H, 4 VIN, 5 BURST_EN, 6 VC, 7 FB, 10 SS, 11 !SHDN, 12 VBIAS, 13 VOUT, 14 PGND, 15 SW_L

## LT3460
designator IC?, comment LT-Spice library generated with : ltspice.ulp from: D:/Program Files (x86)/LTC/LTspiceIV/lib/sym/PowerProducts/LT3461*.asy at 04.10.2012 21:32:12
VALUE2: LT1762; SPICEMODEL: LT1762.lib; SPICEPREFIX: X
footprint SOT5(S5)
pins: 1 SW, 2 GND, 3 FB, 4 !SHDN, 5 VIN

## LT3460SC6
designator IC?, comment LT-Spice library generated with : ltspice.ulp from: D:/Program Files (x86)/LTC/LTspiceIV/lib/sym/PowerProducts/LT3461*.asy at 04.10.2012 21:32:12
VALUE2: LT1762; SPICEMODEL: LT1762.lib; SPICEPREFIX: X
footprint SOT6(SC6)
pins: 1 SW, 2 5 GND, 3 FB, 4 !SHDN, 6 VIN

## LT3461
designator IC?, comment LT-Spice library generated with : ltspice.ulp from: D:/Program Files (x86)/LTC/LTspiceIV/lib/sym/PowerProducts/LT3465*.asy at 04.10.2012 21:33:39
VALUE2: LT1762; SPICEMODEL: LT1762.lib; SPICEPREFIX: X
footprint SOT6(S6)
pins: 1 SW, 2 GND, 3 FB, 4 !SHDN, 5 VOUT, 6 VIN

## LT3461A
designator IC?, comment LT-Spice library generated with : ltspice.ulp from: E:/Programme/LTC/LTspiceIV/lib/sym/PowerProducts/LT3462A*.asy at 05.10.2012 11:13:27
VALUE2: LT1762; SPICEMODEL: LT1762.lib; SPICEPREFIX: X
footprint SOT6(S6)
pins: 1 SW, 2 GND, 3 FB, 4 !SHDN, 5 VOUT, 6 VIN

## LT3462
designator IC?, comment LT-Spice library generated with : ltspice.ulp from: E:/Programme/LTC/LTspiceIV/lib/sym/PowerProducts/LT3590*.asy at 04.10.2012 16:42:15
VALUE2: LT1762; SPICEMODEL: LT1762.lib; SPICEPREFIX: X
footprint SOT6(S6)
pins: 1 SW, 2 GND, 3 FB, 4 SDREF, 5 D, 6 VIN

## LT3462A
designator IC?, comment LT-Spice library generated with : ltspice.ulp from: E:/Programme/LTC/LTspiceIV/lib/sym/PowerProducts/LT3464*.asy at 05.10.2012 11:13:57
VALUE2: LT1762; SPICEMODEL: LT1762.lib; SPICEPREFIX: X
footprint SOT6(S6)
pins: 1 SW, 2 GND, 3 FB, 4 SDREF, 5 D, 6 VIN

## LT3463
designator IC?, comment LT-Spice library generated with : ltspice.ulp from: D:/Program Files (x86)/LTC/LTspiceIV/lib/sym/PowerProducts/LT3460-1*.asy at 04.10.2012 21:32:50
VALUE2: LT1762; SPICEMODEL: LT1762.lib; SPICEPREFIX: X
footprint DFN10(DD)
pins: 1 VOUT1, 2 SW1, 3 VIN, 4 SW2, 5 D2, 6 FB2, 7 VREF, 8 !SHDN2, 9 !SHDN1, 10 FB1, 11 GND

## LT3463A
designator IC?, comment Dual Micropower DC/DC Converters with Schottky Diodes
VALUE2: LT1762; SPICEMODEL: LT1762.lib; SPICEPREFIX: X
footprint DFN10(DD)
pins: 1 VOUT1, 2 SW1, 3 VIN, 4 SW2, 5 D2, 6 FB2, 7 VREF, 8 !SHDN2, 9 !SHDN1, 10 FB1, 11 GND

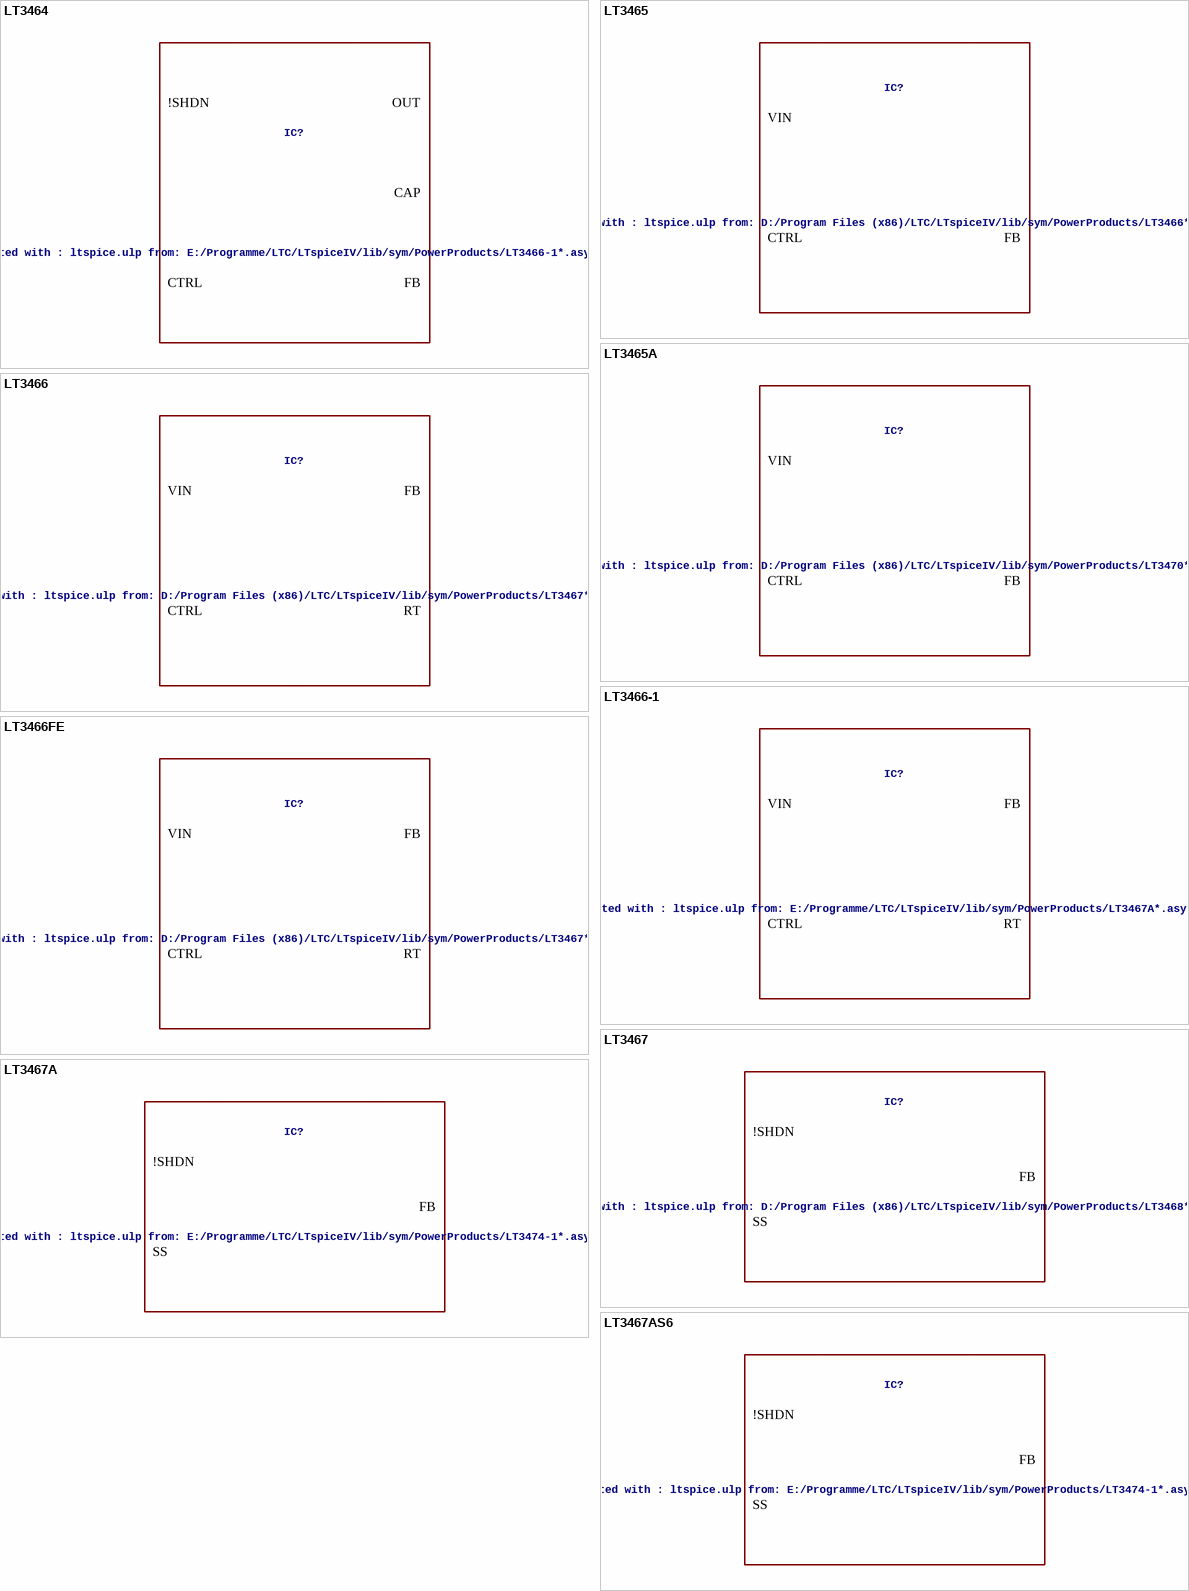
[diagram p7: symbols LT3464 to LT3467AS6]

## LT3464
designator IC?, comment LT-Spice library generated with : ltspice.ulp from: E:/Programme/LTC/LTspiceIV/lib/sym/PowerProducts/LT3466-1*.asy at 05.10.2012 11:14:24
VALUE2: LT1762; SPICEMODEL: LT1762.lib; SPICEPREFIX: X
footprint SOT8(TS8)
pins: 1 CTRL, 2 FB, 3 OUT, 4 GND, 5 CAP, 6 SW, 7 VIN, 8 !SHDN

## LT3465
designator IC?, comment LT-Spice library generated with : ltspice.ulp from: D:/Program Files (x86)/LTC/LTspiceIV/lib/sym/PowerProducts/LT3466*.asy at 04.10.2012 21:33:55
VALUE2: LT1762; SPICEMODEL: LT1762.lib; SPICEPREFIX: X
footprint SOT6(S6)
pins: 1 VOUT, 2 GND, 3 FB, 4 CTRL, 5 VIN, 6 SW

## LT3465A
designator IC?, comment LT-Spice library generated with : ltspice.ulp from: D:/Program Files (x86)/LTC/LTspiceIV/lib/sym/PowerProducts/LT3470*.asy at 04.10.2012 21:48:07
VALUE2: LT1762; SPICEMODEL: LT1762.lib; SPICEPREFIX: X
footprint SOT6(S6)
pins: 1 VOUT, 2 GND, 3 FB, 4 CTRL, 5 VIN, 6 SW

## LT3466
designator IC?, comment LT-Spice library generated with : ltspice.ulp from: D:/Program Files (x86)/LTC/LTspiceIV/lib/sym/PowerProducts/LT3467*.asy at 04.10.2012 21:43:09
VALUE2: LT1762; SPICEMODEL: LT1762.lib; SPICEPREFIX: X
footprint DFN10(DD)
pins: 3 VIN, 4 SW, 5 VOUT, 6 FB, 7 CTRL, 8 RT, 11 GND

## LT3466-1
designator IC?, comment LT-Spice library generated with : ltspice.ulp from: E:/Programme/LTC/LTspiceIV/lib/sym/PowerProducts/LT3467A*.asy at 05.10.2012 11:14:59
VALUE2: LT1762; SPICEMODEL: LT1762.lib; SPICEPREFIX: X
footprint DFN10(DD)
pins: 1 5 VOUT, 2 4 SW, 3 VIN, 6 10 FB, 7 9 CTRL, 8 RT, 11 GND

## LT3466FE
designator IC?, comment LT-Spice library generated with : ltspice.ulp from: D:/Program Files (x86)/LTC/LTspiceIV/lib/sym/PowerProducts/LT3467*.asy at 04.10.2012 21:43:09
VALUE2: LT1762; SPICEMODEL: LT1762.lib; SPICEPREFIX: X
footprint TSSOP16BB(FE)
pins: 1 8 9 16 17 GND, 5 VIN, 6 SW, 7 VOUT, 10 FB, 11 CTRL, 12 RT

## LT3467
designator IC?, comment LT-Spice library generated with : ltspice.ulp from: D:/Program Files (x86)/LTC/LTspiceIV/lib/sym/PowerProducts/LT3468*.asy at 04.10.2012 21:44:27
VALUE2: LT1762; SPICEMODEL: LT1762.lib; SPICEPREFIX: X
footprint DFN8(DDB)
pins: 1 FB, 2 5 9 GND, 3 4 SW, 6 VIN, 7 SS, 8 !SHDN

## LT3467A
designator IC?, comment LT-Spice library generated with : ltspice.ulp from: E:/Programme/LTC/LTspiceIV/lib/sym/PowerProducts/LT3474-1*.asy at 05.10.2012 11:15:51
VALUE2: LT1762; SPICEMODEL: LT1762.lib; SPICEPREFIX: X
footprint DFN8(DDB)
pins: 1 FB, 2 5 9 GND, 3 4 SW, 6 VIN, 7 SS, 8 !SHDN

## LT3467AS6
designator IC?, comment LT-Spice library generated with : ltspice.ulp from: E:/Programme/LTC/LTspiceIV/lib/sym/PowerProducts/LT3474-1*.asy at 05.10.2012 11:15:51
VALUE2: LT1762; SPICEMODEL: LT1762.lib; SPICEPREFIX: X
footprint SOT6(S6)
pins: 1 SW, 2 GND, 3 FB, 4 !SHDN, 5 SS, 6 VIN

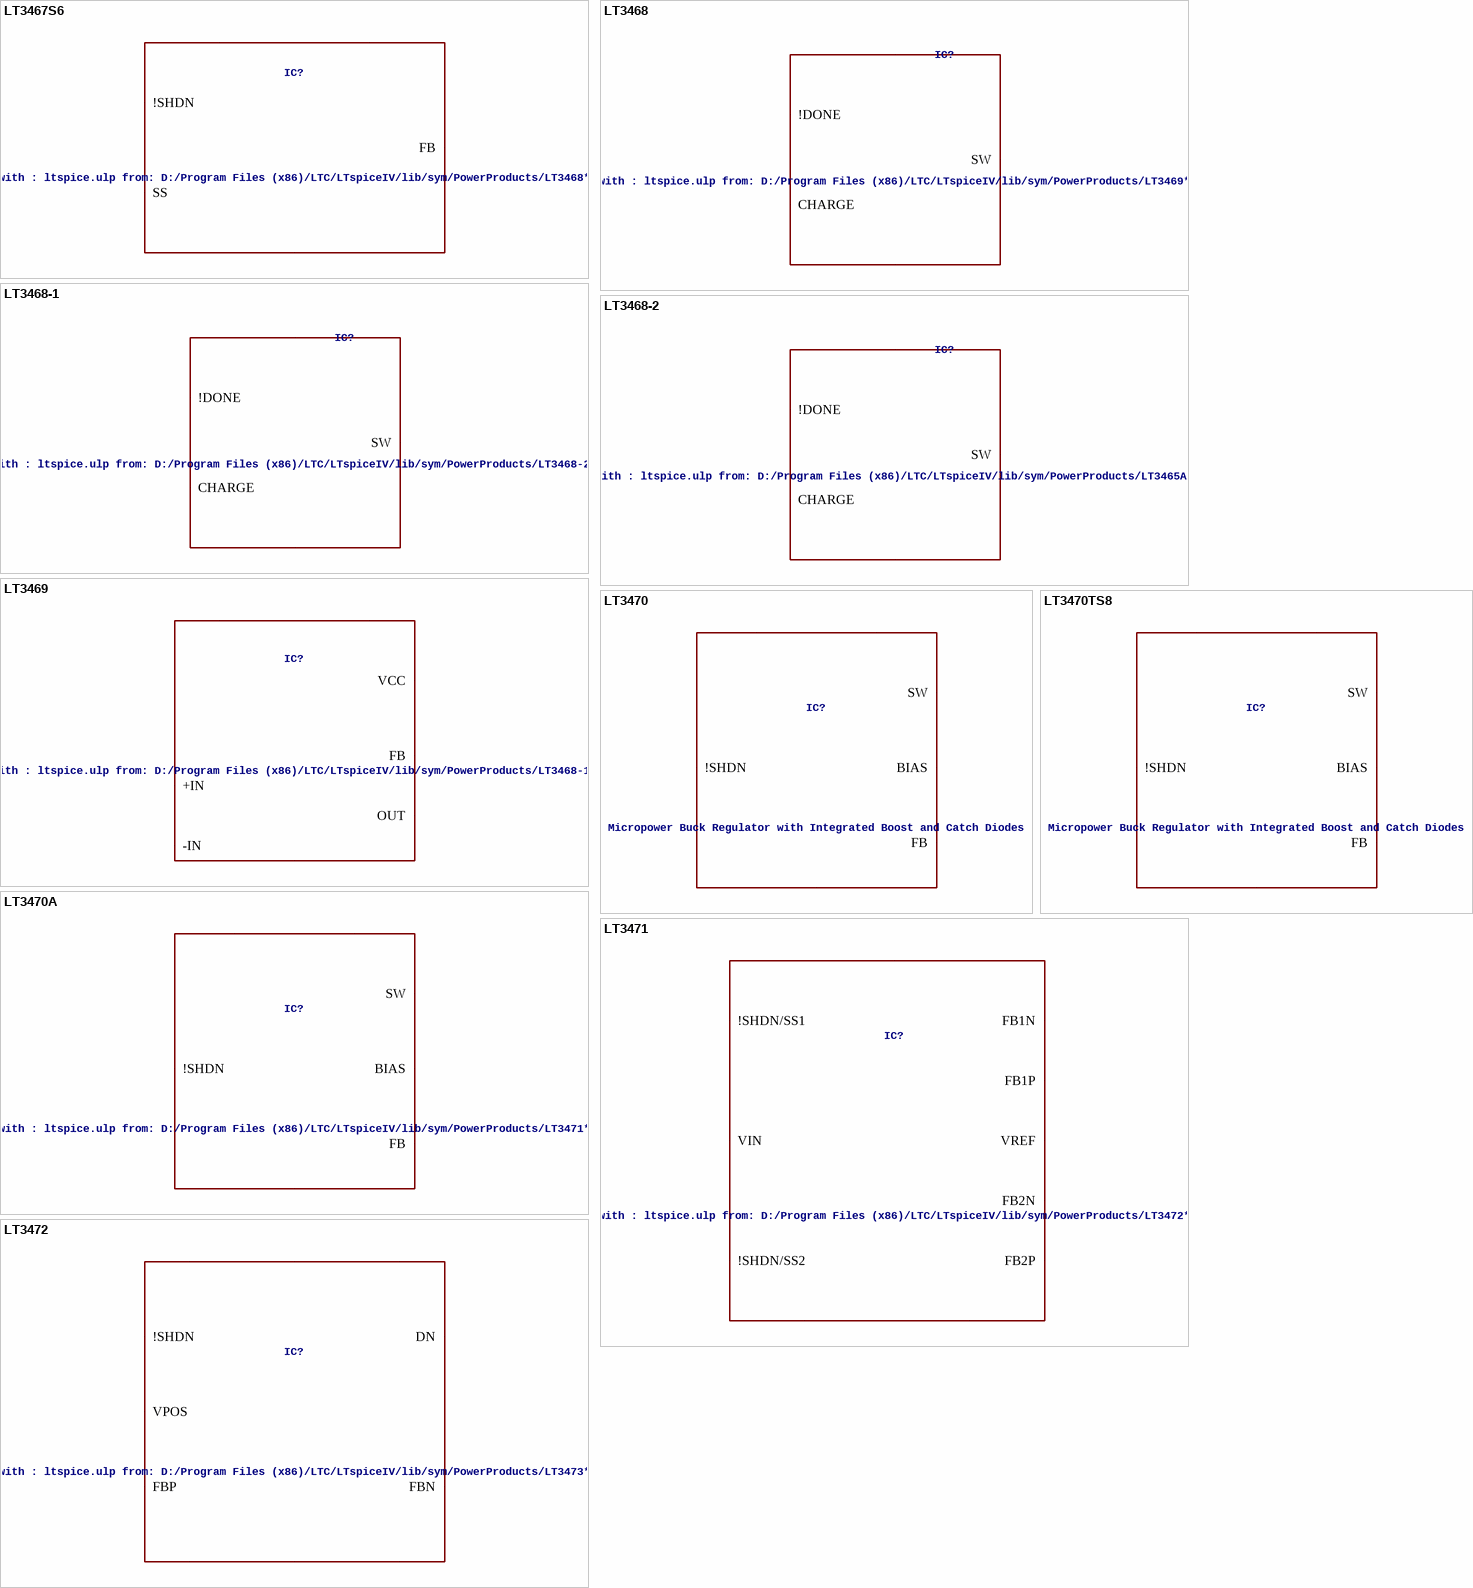
[diagram p8: symbols LT3467S6 to LT3472]

## LT3467S6
designator IC?, comment LT-Spice library generated with : ltspice.ulp from: D:/Program Files (x86)/LTC/LTspiceIV/lib/sym/PowerProducts/LT3468*.asy at 04.10.2012 21:44:27
VALUE2: LT1762; SPICEMODEL: LT1762.lib; SPICEPREFIX: X
footprint SOT6(S6)
pins: 1 SW, 2 GND, 3 FB, 4 !SHDN, 5 SS, 6 VIN

## LT3468
designator IC?, comment LT-Spice library generated with : ltspice.ulp from: D:/Program Files (x86)/LTC/LTspiceIV/lib/sym/PowerProducts/LT3469*.asy at 04.10.2012 21:44:44
VALUE2: LT1762; SPICEMODEL: LT1762.lib; SPICEPREFIX: X
footprint SOT5(S5)
pins: 1 SW, 2 GND, 3 !DONE, 4 CHARGE, 5 VIN

## LT3468-1
designator IC?, comment LT-Spice library generated with : ltspice.ulp from: D:/Program Files (x86)/LTC/LTspiceIV/lib/sym/PowerProducts/LT3468-2*.asy at 04.10.2012 21:46:33
VALUE2: LT1762; SPICEMODEL: LT1762.lib; SPICEPREFIX: X
footprint SOT5(S5)
pins: 1 SW, 2 GND, 3 !DONE, 4 CHARGE, 5 VIN

## LT3468-2
designator IC?, comment LT-Spice library generated with : ltspice.ulp from: D:/Program Files (x86)/LTC/LTspiceIV/lib/sym/PowerProducts/LT3465A*.asy at 04.10.2012 21:46:52
VALUE2: LT1762; SPICEMODEL: LT1762.lib; SPICEPREFIX: X
footprint SOT5(S5)
pins: 1 SW, 2 GND, 3 !DONE, 4 CHARGE, 5 VIN

## LT3469
designator IC?, comment LT-Spice library generated with : ltspice.ulp from: D:/Program Files (x86)/LTC/LTspiceIV/lib/sym/PowerProducts/LT3468-1*.asy at 04.10.2012 21:45:13
VALUE2: LT1762; SPICEMODEL: LT1762.lib; SPICEPREFIX: X
footprint SOT8(TS8)
pins: 1 OUT, 2 FB, 3 VIN, 4 GND, 5 SW, 6 VCC, 7 +IN, 8 -IN

## LT3470
designator IC?, comment Micropower Buck Regulator with Integrated Boost and Catch Diodes
VALUE2: LT3470; SPICEMODEL: LT3470.sub; SPICEPREFIX: X
footprint DFN8(DDB)
pins: 1 FB, 2 BIAS, 3 BOOST, 4 SW, 5 9 GND, 6 VIN, 8 !SHDN

## LT3470A
designator IC?, comment LT-Spice library generated with : ltspice.ulp from: D:/Program Files (x86)/LTC/LTspiceIV/lib/sym/PowerProducts/LT3471*.asy at 04.10.2012 21:48:33
VALUE2: LT1762; SPICEMODEL: LT1762.lib; SPICEPREFIX: X
footprint DFN8(DDB)
pins: 1 FB, 2 BIAS, 3 BOOST, 4 SW, 5 9 GND, 6 VIN, 8 !SHDN

## LT3470TS8
designator IC?, comment Micropower Buck Regulator with Integrated Boost and Catch Diodes
VALUE2: LT3470; SPICEMODEL: LT3470.sub; SPICEPREFIX: X
footprint SOT8(TS8)
pins: 1 !SHDN, 3 VIN, 4 GND, 5 SW, 6 BOOST, 7 BIAS, 8 FB

## LT3471
designator IC?, comment LT-Spice library generated with : ltspice.ulp from: D:/Program Files (x86)/LTC/LTspiceIV/lib/sym/PowerProducts/LT3472*.asy at 04.10.2012 21:48:38
VALUE2: LT1762; SPICEMODEL: LT1762.lib; SPICEPREFIX: X
footprint DFN10(DD)
pins: 1 FB1N, 2 FB1P, 3 VREF, 4 FB2P, 5 FB2N, 6 SW2, 7 !SHDN/SS2, 8 VIN, 9 !SHDN/SS1, 10 SW1, 11 GND

## LT3472
designator IC?, comment LT-Spice library generated with : ltspice.ulp from: D:/Program Files (x86)/LTC/LTspiceIV/lib/sym/PowerProducts/LT3473*.asy at 04.10.2012 21:48:45
VALUE2: LT1762; SPICEMODEL: LT1762.lib; SPICEPREFIX: X
footprint DFN10(DD)
pins: 1 SWP, 2 VIN, 3 !SHDN, 4 SWN, 5 DN, 6 FBN, 7 SSN, 8 FBP, 9 SSP, 10 VPOS, 11 GND

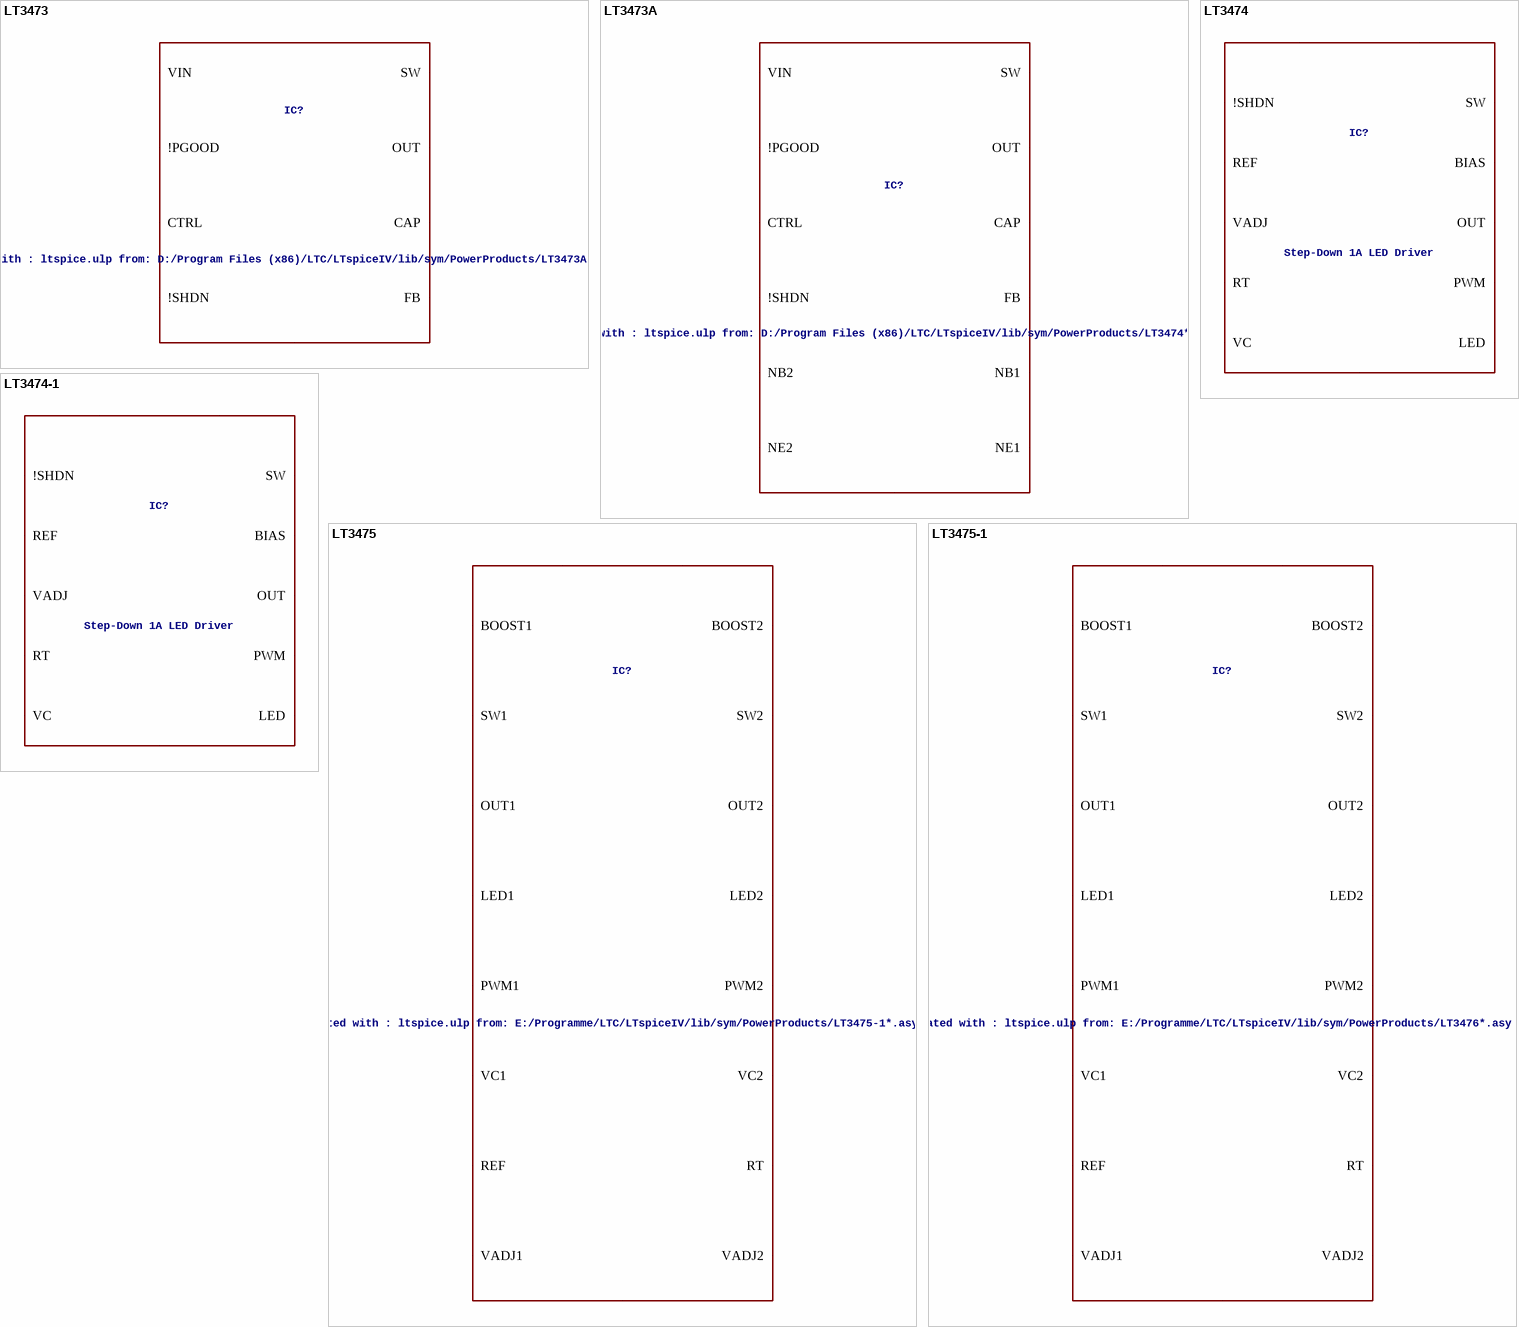
[diagram p9: symbols LT3473 to LT3475-1]

## LT3473
designator IC?, comment LT-Spice library generated with : ltspice.ulp from: D:/Program Files (x86)/LTC/LTspiceIV/lib/sym/PowerProducts/LT3473A*.asy at 04.10.2012 21:49:05
VALUE2: LT1762; SPICEMODEL: LT1762.lib; SPICEPREFIX: X
footprint DFN8(DD)
pins: 1 CAP, 2 OUT, 3 CTRL, 4 FB, 5 !PGOOD, 6 !SHDN, 7 VIN, 8 SW, 9 GND

## LT3473A
designator IC?, comment LT-Spice library generated with : ltspice.ulp from: D:/Program Files (x86)/LTC/LTspiceIV/lib/sym/PowerProducts/LT3474*.asy at 04.10.2012 21:49:13
VALUE2: LT1762; SPICEMODEL: LT1762.lib; SPICEPREFIX: X
footprint DFN12(DE)
pins: 1 CAP, 2 OUT, 3 NB1, 4 NE1, 5 NB2, 6 NE2, 7 FB, 8 CTRL, 9 !PGOOD, 10 !SHDN, 11 VIN, 12 SW, 13 GND

## LT3474
designator IC?, comment Step-Down 1A LED Driver
VALUE2: LT3474; SPICEMODEL: LT3474.sub; SPICEPREFIX: X
footprint TSSOP16BA(FE)
pins: 2 OUT, 3 LED, 4 VIN, 5 SW, 6 BOOST, 7 BIAS, 8 15 17 GND, 9 RT, 10 !SHDN, 11 REF, 12 VC, 13 VADJ, 14 PWM

## LT3474-1
designator IC?, comment Step-Down 1A LED Driver
VALUE2: LT1762; SPICEMODEL: LT1762.lib; SPICEPREFIX: X
footprint TSSOP16BA(FE)
pins: 2 OUT, 3 LED, 4 VIN, 5 SW, 6 BOOST, 7 BIAS, 8 15 17 GND, 9 RT, 10 !SHDN, 11 REF, 12 VC, 13 VADJ, 14 PWM

## LT3475
designator IC?, comment LT-Spice library generated with : ltspice.ulp from: E:/Programme/LTC/LTspiceIV/lib/sym/PowerProducts/LT3475-1*.asy at 05.10.2012 11:16:16
VALUE2: LT1762; SPICEMODEL: LT1762.lib; SPICEPREFIX: X
footprint TSSOP20CB(FE)
pins: 1 OUT1, 2 LED1, 3 BOOST1, 4 SW1, 5 6 VIN, 7 SW2, 8 BOOST2, 9 LED2, 10 OUT2, 11 PWM2, 12 VADJ2, 13 VC2, 14 RT, 15 21 GND, 16 !SHDN, 17 REF, 18 VC1, 19 VADJ1, 20 PWM1

## LT3475-1
designator IC?, comment LT-Spice library generated with : ltspice.ulp from: E:/Programme/LTC/LTspiceIV/lib/sym/PowerProducts/LT3476*.asy at 05.10.2012 11:16:35
VALUE2: LT1762; SPICEMODEL: LT1762.lib; SPICEPREFIX: X
footprint TSSOP20CB(FE)
pins: 1 OUT1, 2 LED1, 3 BOOST1, 4 SW1, 5 6 VIN, 7 SW2, 8 BOOST2, 9 LED2, 10 OUT2, 11 PWM2, 12 VADJ2, 13 VC2, 14 RT, 15 21 GND, 16 !SHDN, 17 REF, 18 VC1, 19 VADJ1, 20 PWM1

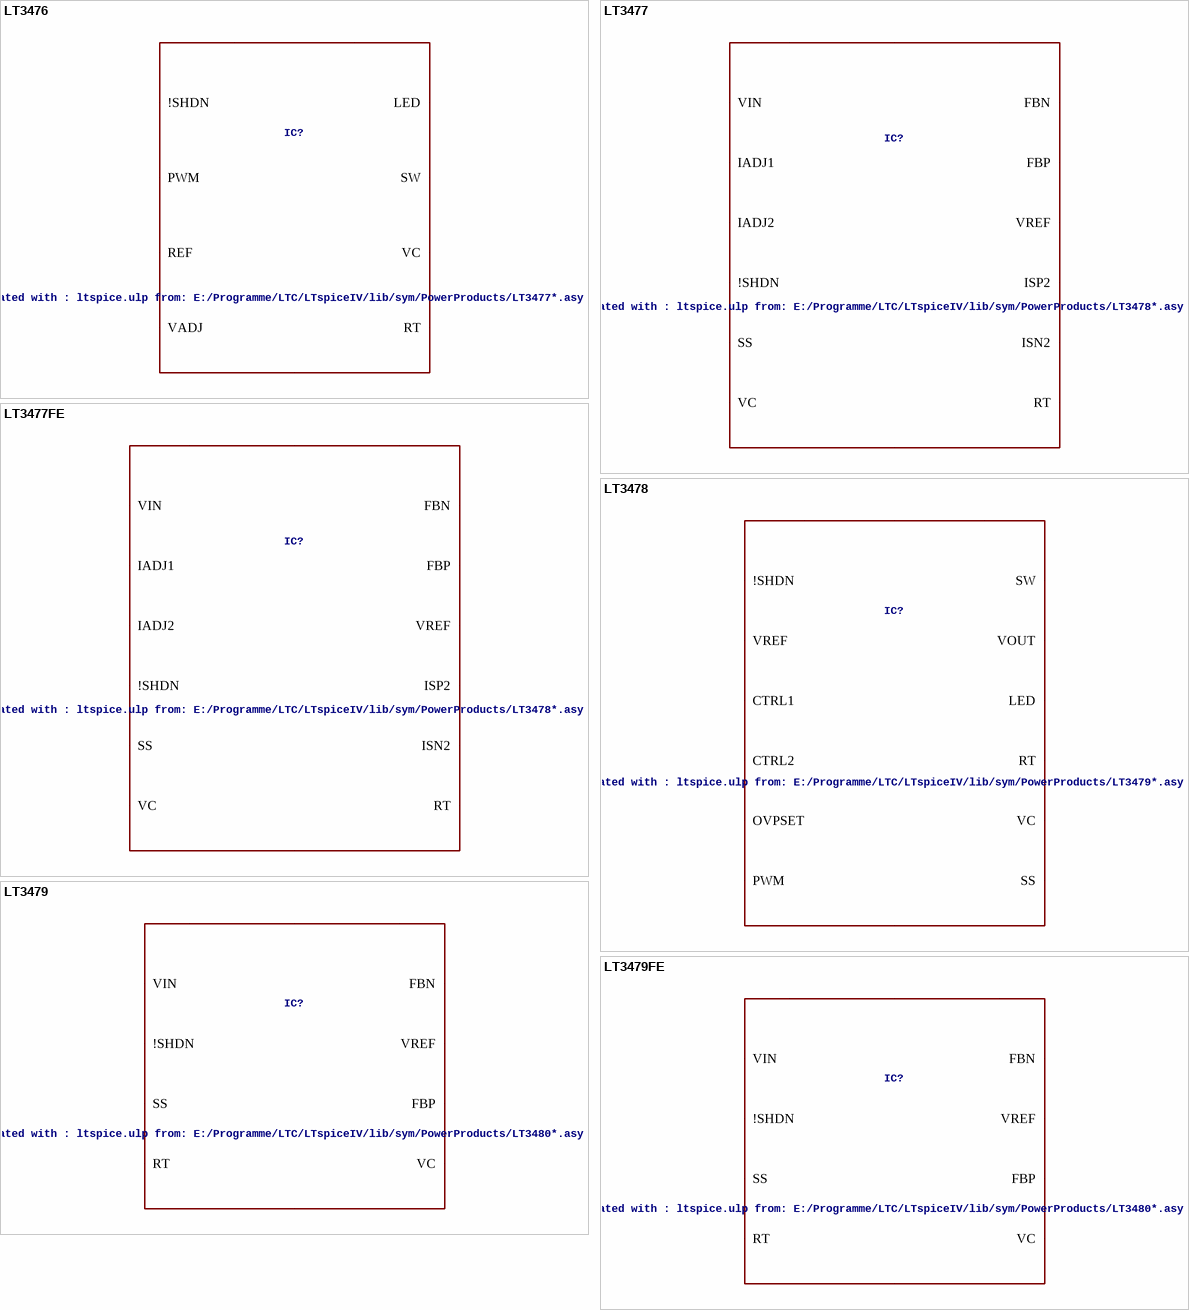
[diagram p10: symbols LT3476 to LT3479FE]

## LT3476
designator IC?, comment LT-Spice library generated with : ltspice.ulp from: E:/Programme/LTC/LTspiceIV/lib/sym/PowerProducts/LT3477*.asy at 05.10.2012 11:16:52
VALUE2: LT1762; SPICEMODEL: LT1762.lib; SPICEPREFIX: X
footprint QFN38(UHF)
pins: 1 12 13 38 VC, 2 5 8 11 LED, 3 4 9 10 CAP, 6 RT, 7 REF, 14 15 36 37 VADJ, 16 17 34 35 PWM, 18 !SHDN, 22 23 24 25 26 27 28 29 SW, 33 VIN, 39 GND

## LT3477
designator IC?, comment LT-Spice library generated with : ltspice.ulp from: E:/Programme/LTC/LTspiceIV/lib/sym/PowerProducts/LT3478*.asy at 05.10.2012 11:17:05
VALUE2: LT1762; SPICEMODEL: LT1762.lib; SPICEPREFIX: X
footprint QFN20(UF)
pins: 3 VIN, 4 RT, 5 !SHDN, 6 SS, 7 VC, 8 FBN, 9 FBP, 10 VREF, 11 IADJ2, 12 IADJ1, 13 ISP2, 14 ISN2, 15 ISP1, 16 ISN1, 17 21 GND, 18 19 SW

## LT3477FE
designator IC?, comment LT-Spice library generated with : ltspice.ulp from: E:/Programme/LTC/LTspiceIV/lib/sym/PowerProducts/LT3478*.asy at 05.10.2012 11:17:05
VALUE2: LT1762; SPICEMODEL: LT1762.lib; SPICEPREFIX: X
footprint TSSOP20CB(FE)
pins: 1 VIN, 2 RT, 3 !SHDN, 4 SS, 5 VC, 6 FBN, 7 FBP, 8 VREF, 9 IADJ2, 10 IADJ1, 11 ISP2, 12 ISN2, 13 ISP1, 14 ISN1, 15 21 GND, 16 17 SW

## LT3478
designator IC?, comment LT-Spice library generated with : ltspice.ulp from: E:/Programme/LTC/LTspiceIV/lib/sym/PowerProducts/LT3479*.asy at 05.10.2012 11:17:19
VALUE2: LT1762; SPICEMODEL: LT1762.lib; SPICEPREFIX: X
footprint TSSOP16BC(FE)
pins: 1 2 SW, 3 VIN, 4 VS, 5 L, 6 VOUT, 7 LED, 8 OVPSET, 9 VC, 10 VREF, 11 !SHDN, 12 CTRL1, 13 CTRL2, 14 PWM, 15 RT, 16 SS, 17 GND

## LT3479
designator IC?, comment LT-Spice library generated with : ltspice.ulp from: E:/Programme/LTC/LTspiceIV/lib/sym/PowerProducts/LT3480*.asy at 05.10.2012 11:17:38
VALUE2: LT1762; SPICEMODEL: LT1762.lib; SPICEPREFIX: X
footprint DFN14(DE)
pins: 1 2 SW, 3 L, 4 VS, 5 VIN, 6 RT, 7 !SHDN, 8 VREF, 9 FBP, 10 FBN, 11 VC, 12 SS, 13 14 15 GND

## LT3479FE
designator IC?, comment LT-Spice library generated with : ltspice.ulp from: E:/Programme/LTC/LTspiceIV/lib/sym/PowerProducts/LT3480*.asy at 05.10.2012 11:17:38
VALUE2: LT1762; SPICEMODEL: LT1762.lib; SPICEPREFIX: X
footprint TSSOP16BC(FE)
pins: 1 2 SW, 3 L, 4 VS, 5 VIN, 6 RT, 7 !SHDN, 8 14 15 16 17 GND, 9 VREF, 10 FBP, 11 FBN, 12 VC, 13 SS

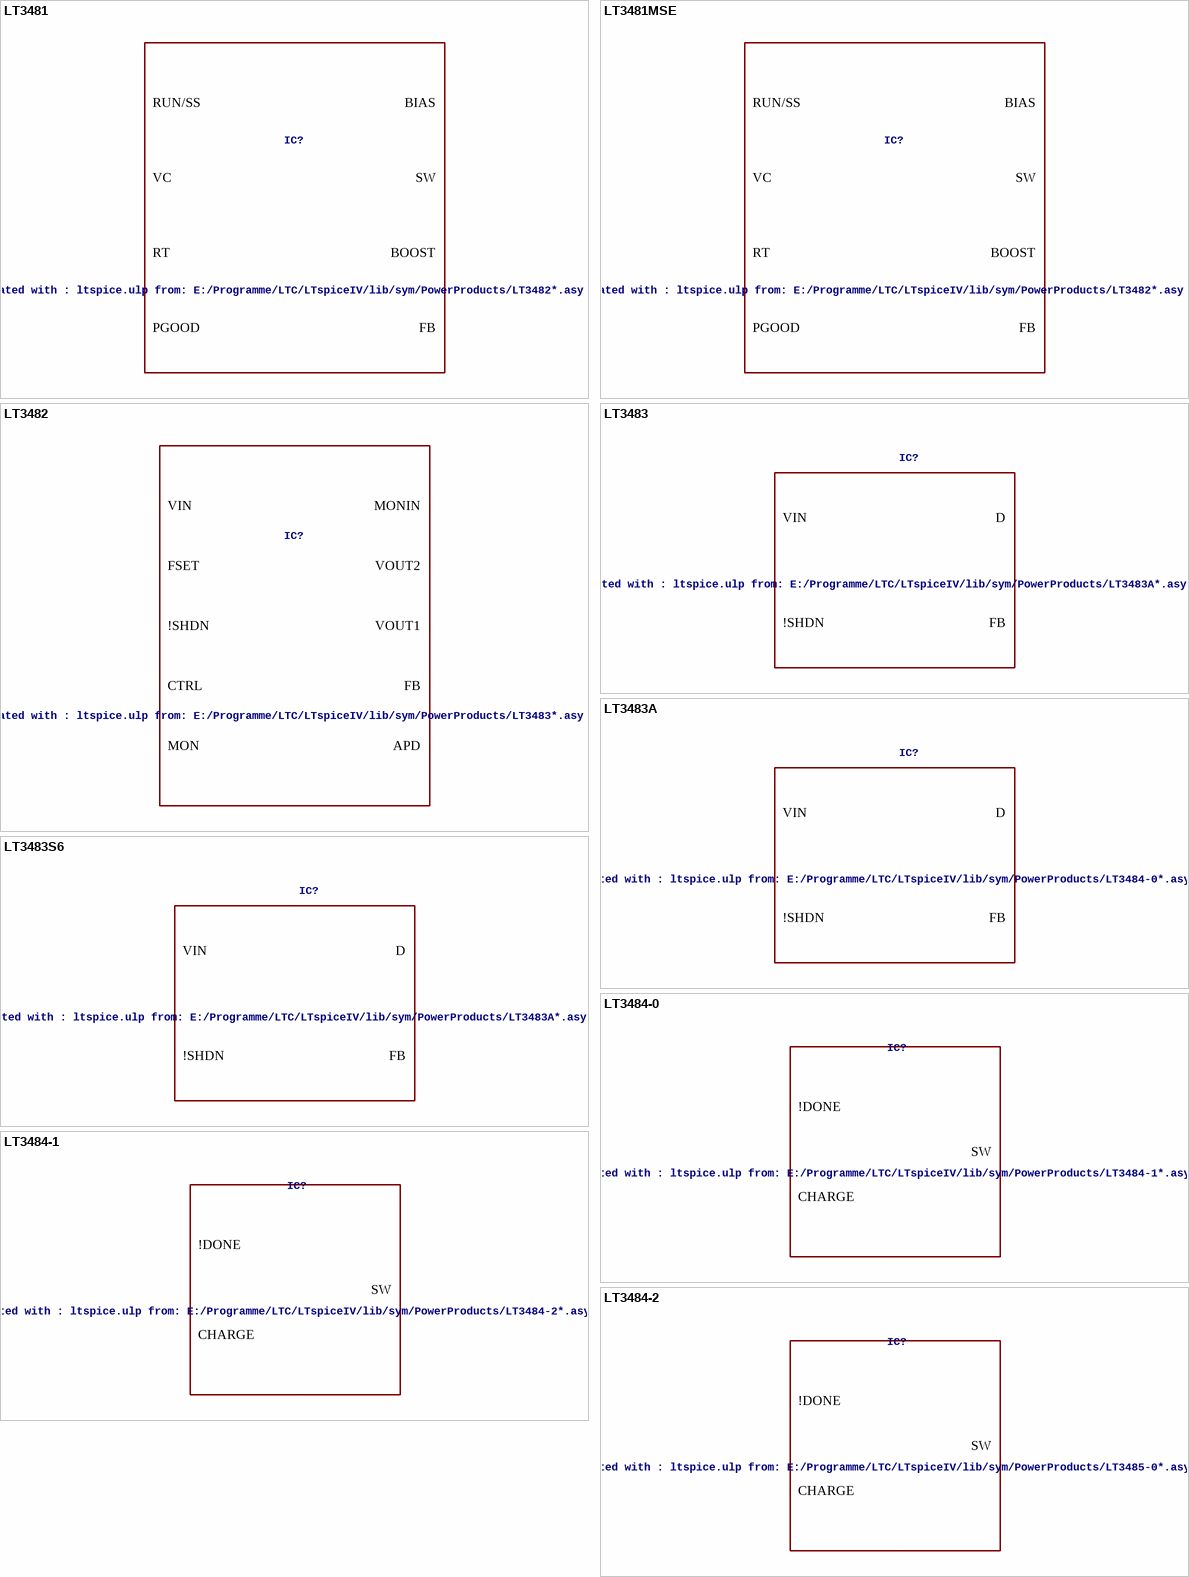
[diagram p11: symbols LT3481 to LT3484-2]

## LT3481
designator IC?, comment LT-Spice library generated with : ltspice.ulp from: E:/Programme/LTC/LTspiceIV/lib/sym/PowerProducts/LT3482*.asy at 05.10.2012 11:18:06
VALUE2: LT1762; SPICEMODEL: LT1762.lib; SPICEPREFIX: X
footprint DFN10(DD)
pins: 1 BD, 2 BOOST, 3 SW, 4 VIN, 5 RUN/SS, 6 PGOOD, 7 BIAS, 8 FB, 9 VC, 10 RT, 11 GND

## LT3481MSE
designator IC?, comment LT-Spice library generated with : ltspice.ulp from: E:/Programme/LTC/LTspiceIV/lib/sym/PowerProducts/LT3482*.asy at 05.10.2012 11:18:06
VALUE2: LT1762; SPICEMODEL: LT1762.lib; SPICEPREFIX: X
footprint MSOP10(MSE)
pins: 1 BD, 2 BOOST, 3 SW, 4 VIN, 5 RUN/SS, 6 PGOOD, 7 BIAS, 8 FB, 9 VC, 10 RT, 11 GND

## LT3482
designator IC?, comment LT-Spice library generated with : ltspice.ulp from: E:/Programme/LTC/LTspiceIV/lib/sym/PowerProducts/LT3483*.asy at 05.10.2012 11:18:15
VALUE2: LT1762; SPICEMODEL: LT1762.lib; SPICEPREFIX: X
footprint QFN16(UD)
pins: 2 APD, 3 MONIN, 4 VOUT2, 5 VOUT1, 6 PUMP, 7 8 SW, 9 10 17 GND, 11 VIN, 12 !SHDN, 13 CTRL, 14 FB, 15 FSET, 16 MON

## LT3483
designator IC?, comment LT-Spice library generated with : ltspice.ulp from: E:/Programme/LTC/LTspiceIV/lib/sym/PowerProducts/LT3483A*.asy at 05.10.2012 11:18:26
VALUE2: LT1762; SPICEMODEL: LT1762.lib; SPICEPREFIX: X
footprint DFN8(DC)
pins: 1 FB, 2 3 9 GND, 4 SW, 5 VIN, 7 D, 8 !SHDN

## LT3483A
designator IC?, comment LT-Spice library generated with : ltspice.ulp from: E:/Programme/LTC/LTspiceIV/lib/sym/PowerProducts/LT3484-0*.asy at 05.10.2012 11:18:43
VALUE2: LT1762; SPICEMODEL: LT1762.lib; SPICEPREFIX: X
footprint DFN8(DC)
pins: 1 FB, 2 3 9 GND, 4 SW, 5 VIN, 7 D, 8 !SHDN

## LT3483S6
designator IC?, comment LT-Spice library generated with : ltspice.ulp from: E:/Programme/LTC/LTspiceIV/lib/sym/PowerProducts/LT3483A*.asy at 05.10.2012 11:18:26
VALUE2: LT1762; SPICEMODEL: LT1762.lib; SPICEPREFIX: X
footprint SOT6(S6)
pins: 1 SW, 2 GND, 3 FB, 4 !SHDN, 5 D, 6 VIN

## LT3484-0
designator IC?, comment LT-Spice library generated with : ltspice.ulp from: E:/Programme/LTC/LTspiceIV/lib/sym/PowerProducts/LT3484-1*.asy at 05.10.2012 11:18:52
VALUE2: LT1762; SPICEMODEL: LT1762.lib; SPICEPREFIX: X
footprint DFN6(DCB)
pins: 1 !DONE, 2 CHARGE, 3 VIN, 4 5 SW, 6 VBAT, 7 GND

## LT3484-1
designator IC?, comment LT-Spice library generated with : ltspice.ulp from: E:/Programme/LTC/LTspiceIV/lib/sym/PowerProducts/LT3484-2*.asy at 05.10.2012 11:19:05
VALUE2: LT1762; SPICEMODEL: LT1762.lib; SPICEPREFIX: X
footprint DFN6(DCB)
pins: 1 !DONE, 2 CHARGE, 3 VIN, 4 5 SW, 6 VBAT, 7 GND

## LT3484-2
designator IC?, comment LT-Spice library generated with : ltspice.ulp from: E:/Programme/LTC/LTspiceIV/lib/sym/PowerProducts/LT3485-0*.asy at 05.10.2012 11:19:20
VALUE2: LT1762; SPICEMODEL: LT1762.lib; SPICEPREFIX: X
footprint DFN6(DCB)
pins: 1 !DONE, 2 CHARGE, 3 VIN, 4 5 SW, 6 VBAT, 7 GND

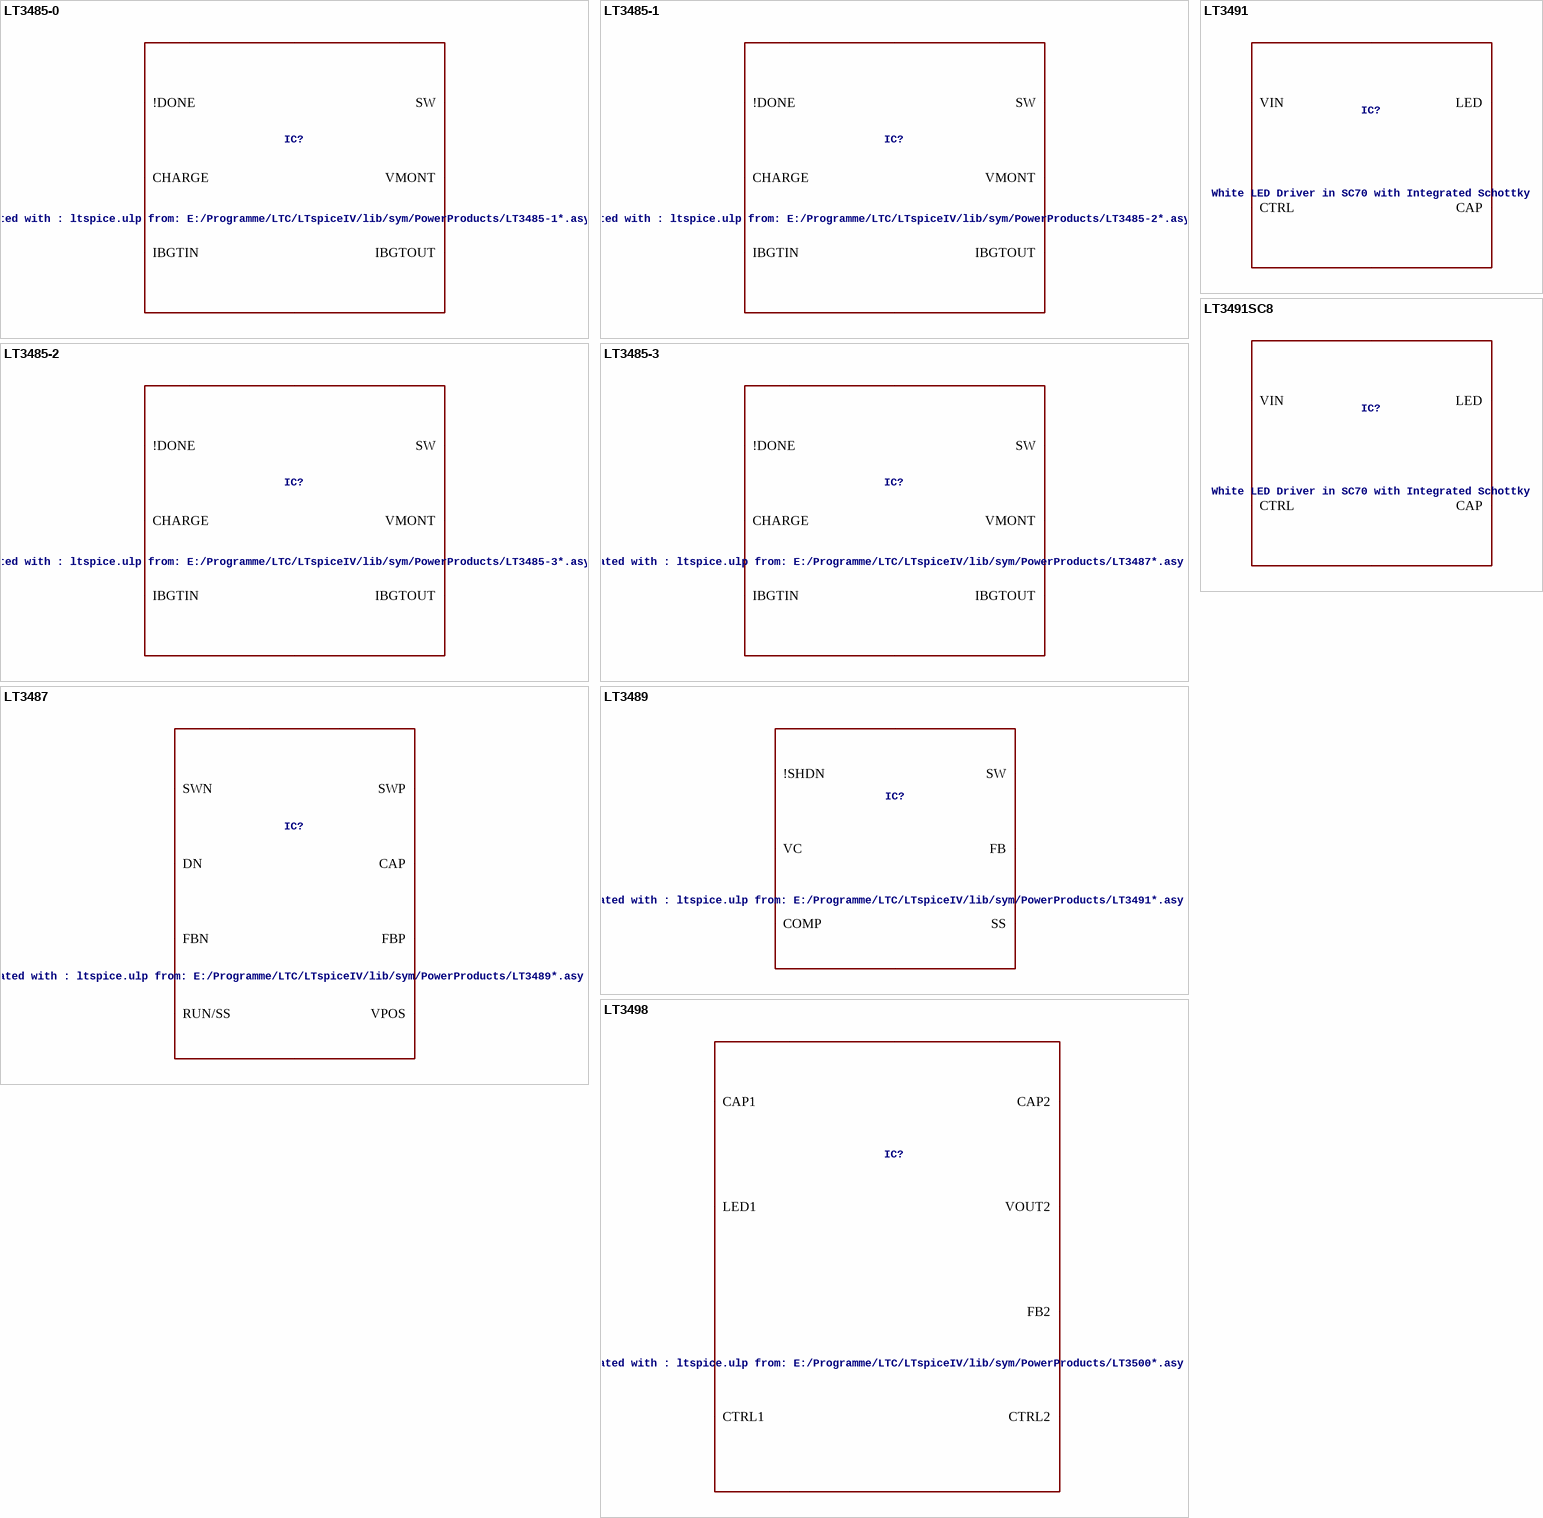
[diagram p12: symbols LT3485-0 to LT3498]

## LT3485-0
designator IC?, comment LT-Spice library generated with : ltspice.ulp from: E:/Programme/LTC/LTspiceIV/lib/sym/PowerProducts/LT3485-1*.asy at 05.10.2012 11:19:32
VALUE2: LT1762; SPICEMODEL: LT1762.lib; SPICEPREFIX: X
footprint DFN10(DD)
pins: 1 CHARGE, 2 VBAT, 3 VIN, 4 5 SW, 6 IBGTOUT, 7 IBGTIN, 8 IBGTPWR, 9 !DONE, 10 VMONT, 11 GND

## LT3485-1
designator IC?, comment LT-Spice library generated with : ltspice.ulp from: E:/Programme/LTC/LTspiceIV/lib/sym/PowerProducts/LT3485-2*.asy at 05.10.2012 11:19:46
VALUE2: LT1762; SPICEMODEL: LT1762.lib; SPICEPREFIX: X
footprint DFN10(DD)
pins: 1 CHARGE, 2 VBAT, 3 VIN, 4 5 SW, 6 IBGTOUT, 7 IBGTIN, 8 IBGTPWR, 9 !DONE, 10 VMONT, 11 GND

## LT3485-2
designator IC?, comment LT-Spice library generated with : ltspice.ulp from: E:/Programme/LTC/LTspiceIV/lib/sym/PowerProducts/LT3485-3*.asy at 05.10.2012 11:20:02
VALUE2: LT1762; SPICEMODEL: LT1762.lib; SPICEPREFIX: X
footprint DFN10(DD)
pins: 1 CHARGE, 2 VBAT, 3 VIN, 4 5 SW, 6 IBGTOUT, 7 IBGTIN, 8 IBGTPWR, 9 !DONE, 10 VMONT, 11 GND

## LT3485-3
designator IC?, comment LT-Spice library generated with : ltspice.ulp from: E:/Programme/LTC/LTspiceIV/lib/sym/PowerProducts/LT3487*.asy at 05.10.2012 11:22:52
VALUE2: LT1762; SPICEMODEL: LT1762.lib; SPICEPREFIX: X
footprint DFN10(DD)
pins: 1 CHARGE, 2 VBAT, 3 VIN, 4 5 SW, 6 IBGTOUT, 7 IBGTIN, 8 IBGTPWR, 9 !DONE, 10 VMONT, 11 GND

## LT3487
designator IC?, comment LT-Spice library generated with : ltspice.ulp from: E:/Programme/LTC/LTspiceIV/lib/sym/PowerProducts/LT3489*.asy at 05.10.2012 11:23:04
VALUE2: LT1762; SPICEMODEL: LT1762.lib; SPICEPREFIX: X
footprint DFN10(DD)
pins: 1 CAP, 2 SWP, 3 VBAT, 4 SWN, 5 DN, 6 VIN, 7 FBN, 8 RUN/SS, 9 FBP, 10 VPOS, 11 GND

## LT3489
designator IC?, comment LT-Spice library generated with : ltspice.ulp from: E:/Programme/LTC/LTspiceIV/lib/sym/PowerProducts/LT3491*.asy at 05.10.2012 11:23:19
VALUE2: LT1762; SPICEMODEL: LT1762.lib; SPICEPREFIX: X
footprint MSOP8(MS8E)
pins: 1 VC, 2 FB, 3 !SHDN, 4 9 GND, 5 SW, 6 VIN, 7 COMP, 8 SS

## LT3491
designator IC?, comment White LED Driver in SC70 with Integrated Schottky
VALUE2: LT1762; SPICEMODEL: LT1762.lib; SPICEPREFIX: X
footprint DFN6(DC)
pins: 1 VIN, 2 7 GND, 3 SW, 4 CAP, 5 LED, 6 CTRL

## LT3491SC8
designator IC?, comment White LED Driver in SC70 with Integrated Schottky
VALUE2: LT1762; SPICEMODEL: LT1762.lib; SPICEPREFIX: X
footprint SOT8(SC8)
pins: 1 SW, 2 3 4 GND, 5 VIN, 6 CTRL, 7 LED, 8 CAP

## LT3498
designator IC?, comment LT-Spice library generated with : ltspice.ulp from: E:/Programme/LTC/LTspiceIV/lib/sym/PowerProducts/LT3500*.asy at 05.10.2012 12:14:28
VALUE2: LT3498; SPICEMODEL: LT3498.sub; SPICEPREFIX: X
footprint DFN12(DDB)
pins: 1 LED1, 2 CTRL1, 3 13 GND1, 4 GND2, 5 CTRL2, 6 FB2, 7 VOUT2, 8 CAP2, 9 SW2, 10 VIN, 11 SW1, 12 CAP1

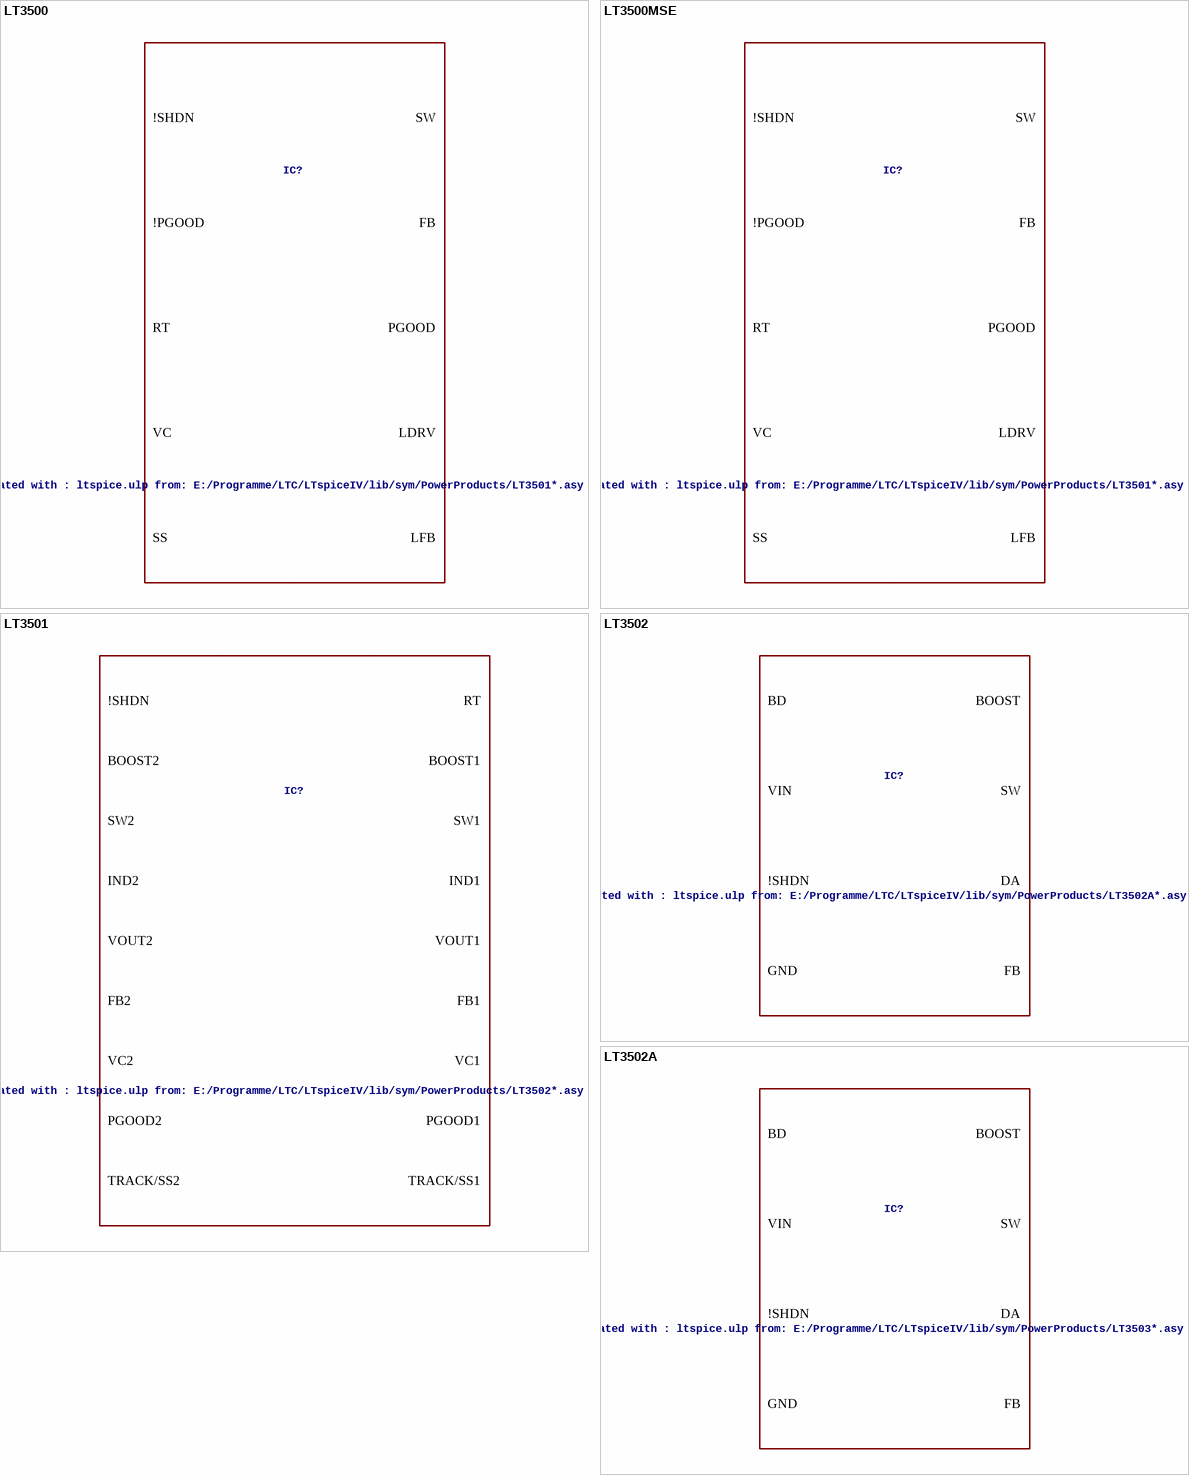
[diagram p13: symbols LT3500 to LT3502A]

## LT3500
designator IC?, comment LT-Spice library generated with : ltspice.ulp from: E:/Programme/LTC/LTspiceIV/lib/sym/PowerProducts/LT3501*.asy at 05.10.2012 12:20:15
VALUE2: LT3500; SPICEMODEL: LT3500.sub; SPICEPREFIX: X
footprint DFN12(DD)
pins: 1 VIN, 2 !SHDN, 3 SS, 4 PGOOD, 5 VC, 6 RT, 7 !PGOOD, 8 FB, 9 LFB, 10 LDRV, 11 BOOST, 12 SW, 13 GND

## LT3500MSE
designator IC?, comment LT-Spice library generated with : ltspice.ulp from: E:/Programme/LTC/LTspiceIV/lib/sym/PowerProducts/LT3501*.asy at 05.10.2012 12:20:15
VALUE2: LT3500; SPICEMODEL: LT3500.sub; SPICEPREFIX: X
footprint MSOP16(MSE)
pins: 2 VIN, 3 !SHDN, 4 SS, 5 PGOOD, 6 VC, 7 RT, 10 !PGOOD, 11 FB, 12 LFB, 13 LDRV, 14 BOOST, 15 SW, 17 GND

## LT3501
designator IC?, comment LT-Spice library generated with : ltspice.ulp from: E:/Programme/LTC/LTspiceIV/lib/sym/PowerProducts/LT3502*.asy at 05.10.2012 12:20:25
VALUE2: LT3501; SPICEMODEL: LT3501.sub; SPICEPREFIX: X
footprint TSSOP20CA(FE)
pins: 1 VIN1, 2 SW1, 3 IND1, 4 VOUT1, 5 PGOOD1, 6 PGOOD2, 7 VOUT2, 8 IND2, 9 SW2, 10 VIN2, 11 BOOST2, 12 TRACK/SS2, 13 VC2, 14 FB2, 15 !SHDN, 16 RT, 17 FB1, 18 VC1, 19 TRACK/SS1, 20 BOOST1, 21 GND

## LT3502
designator IC?, comment LT-Spice library generated with : ltspice.ulp from: E:/Programme/LTC/LTspiceIV/lib/sym/PowerProducts/LT3502A*.asy at 05.10.2012 12:27:16
VALUE2: LT3502; SPICEMODEL: LT3502.sub; SPICEPREFIX: X
footprint DFN8(DC)
pins: 1 VIN, 2 BD, 3 FB, 4 !SHDN, 5 9 GND, 6 DA, 7 BOOST, 8 SW

## LT3502A
designator IC?, comment LT-Spice library generated with : ltspice.ulp from: E:/Programme/LTC/LTspiceIV/lib/sym/PowerProducts/LT3503*.asy at 05.10.2012 12:27:33
VALUE2: LT3502A; SPICEMODEL: LT3502A.sub; SPICEPREFIX: X
footprint DFN8(DC)
pins: 1 VIN, 2 BD, 3 FB, 4 !SHDN, 5 9 GND, 6 DA, 7 BOOST, 8 SW

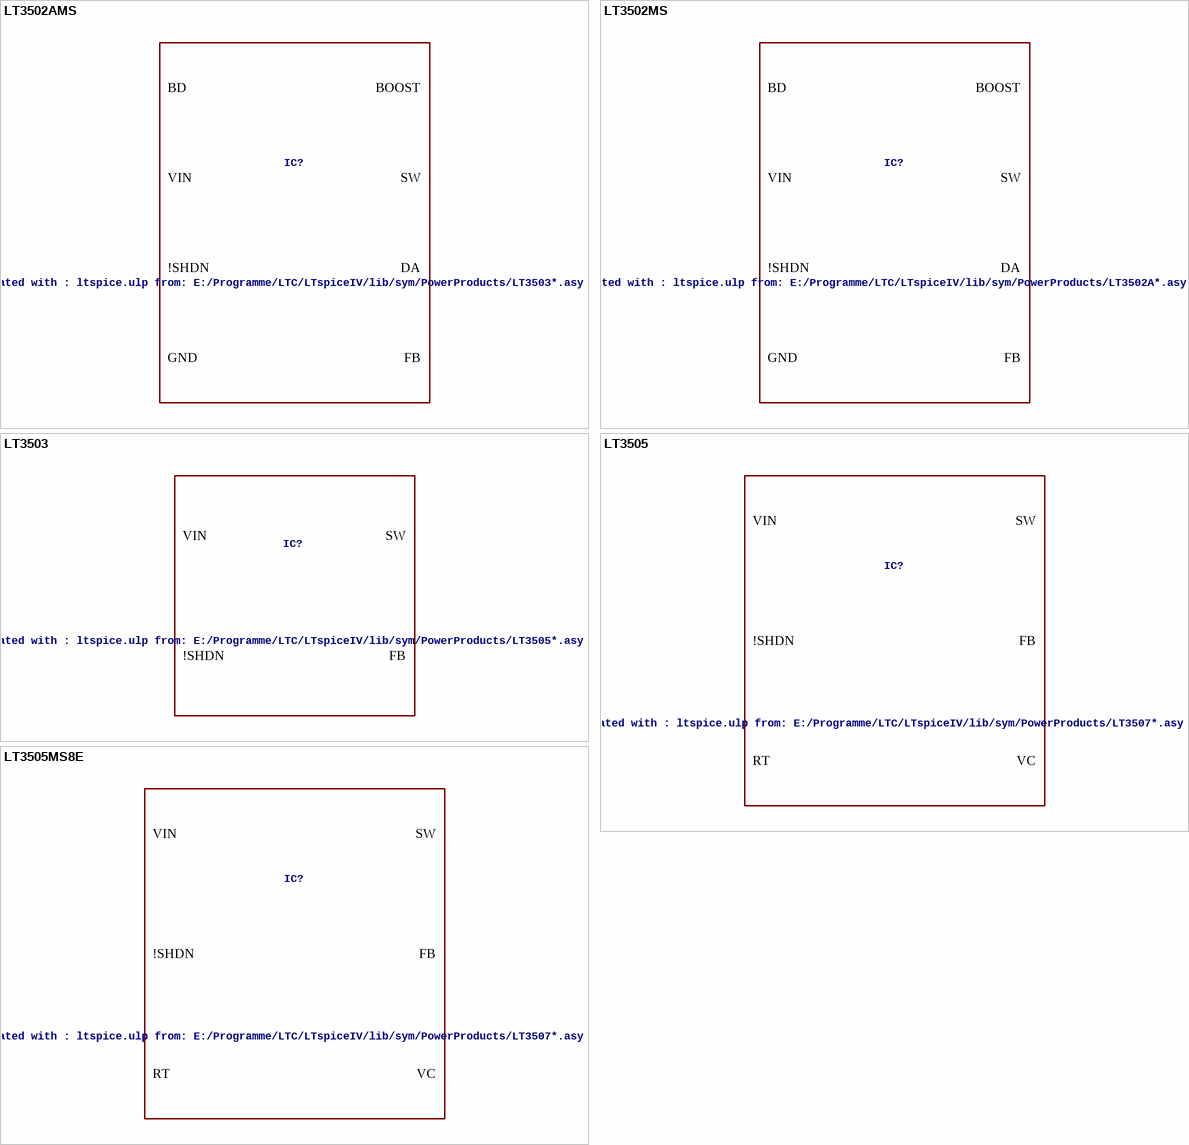
[diagram p14: symbols LT3502AMS to LT3505MS8E]

## LT3502AMS
designator IC?, comment LT-Spice library generated with : ltspice.ulp from: E:/Programme/LTC/LTspiceIV/lib/sym/PowerProducts/LT3503*.asy at 05.10.2012 12:27:33
VALUE2: LT3502A; SPICEMODEL: LT3502A.sub; SPICEPREFIX: X
footprint MSOP10(MS)
pins: 1 SW, 2 BOOST, 4 DA, 5 GND, 6 !SHDN, 7 FB, 8 BD, 10 VIN

## LT3502MS
designator IC?, comment LT-Spice library generated with : ltspice.ulp from: E:/Programme/LTC/LTspiceIV/lib/sym/PowerProducts/LT3502A*.asy at 05.10.2012 12:27:16
VALUE2: LT3502; SPICEMODEL: LT3502.sub; SPICEPREFIX: X
footprint MSOP10(MS)
pins: 1 SW, 2 BOOST, 4 DA, 5 GND, 6 !SHDN, 7 FB, 8 BD, 10 VIN

## LT3503
designator IC?, comment LT-Spice library generated with : ltspice.ulp from: E:/Programme/LTC/LTspiceIV/lib/sym/PowerProducts/LT3505*.asy at 05.10.2012 12:27:46
VALUE2: LT3503; SPICEMODEL: LT3503.sub; SPICEPREFIX: X
footprint DFN6(DCB)
pins: 1 FB, 2 7 GND, 3 BOOST, 4 SW, 5 VIN, 6 !SHDN

## LT3505
designator IC?, comment LT-Spice library generated with : ltspice.ulp from: E:/Programme/LTC/LTspiceIV/lib/sym/PowerProducts/LT3507*.asy at 05.10.2012 12:29:05
VALUE2: LT3505; SPICEMODEL: LT3505.sub; SPICEPREFIX: X
footprint DFN8(DD)
pins: 1 BOOST, 2 SW, 3 VIN, 4 !SHDN, 5 9 GND, 6 RT, 7 FB, 8 VC

## LT3505MS8E
designator IC?, comment LT-Spice library generated with : ltspice.ulp from: E:/Programme/LTC/LTspiceIV/lib/sym/PowerProducts/LT3507*.asy at 05.10.2012 12:29:05
VALUE2: LT3505; SPICEMODEL: LT3505.sub; SPICEPREFIX: X
footprint MSOP8(MS8E)
pins: 1 BOOST, 2 SW, 3 VIN, 4 !SHDN, 5 9 GND, 6 RT, 7 FB, 8 VC

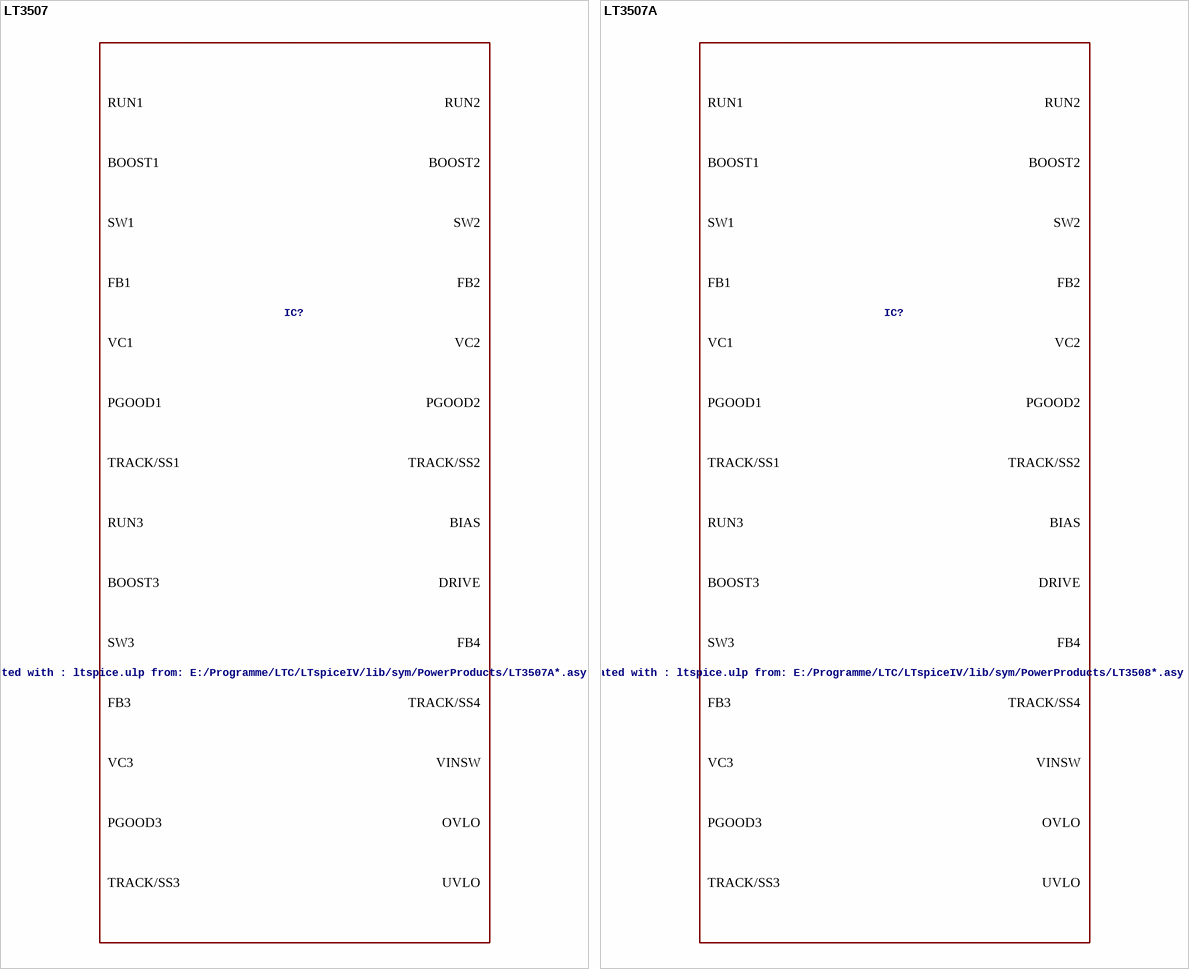
[diagram p15: symbols LT3507 to LT3507A]

## LT3507
designator IC?, comment LT-Spice library generated with : ltspice.ulp from: E:/Programme/LTC/LTspiceIV/lib/sym/PowerProducts/LT3507A*.asy at 05.10.2012 12:29:19
VALUE2: LT3507; SPICEMODEL: LT3507.sub; SPICEPREFIX: X
footprint QFN38(UHF)
pins: 1 BOOST1, 2 3 VIN1, 4 VINSW, 5 OVLO, 6 UVLO, 7 VC1, 8 TRACK/SS1, 9 FB1, 10 PGOOD1, 11 PGOOD2, 12 PGOOD3, 13 RT, 14 RUN1, 15 RUN2, 16 RUN3, 17 BIAS, 18 TRACK/SS3, 19 VC3, 20 FB3, 21 TRACK/SS2, 22 FB2, 23 VC2, 24 DRIVE, 25 FB4, 26 TRACK/SS4, 27 BOOST2, 28 29 SW2, 30 31 VIN2, 32 BOOST3, 33 34 SW3, 35 36 VIN3, 37 38 SW1, 39 GND

## LT3507A
designator IC?, comment LT-Spice library generated with : ltspice.ulp from: E:/Programme/LTC/LTspiceIV/lib/sym/PowerProducts/LT3508*.asy at 05.10.2012 12:29:29
VALUE2: LT3507A; SPICEMODEL: LT3507A.sub; SPICEPREFIX: X
footprint TSSOP38AA(FE)
pins: 1 VIN3, 2 3 SW1, 4 BOOST1, 5 6 VIN1, 7 VINSW, 8 OVLO, 9 UVLO, 10 VC1, 11 TRACK/SS1, 12 FB1, 13 PGOOD1, 14 PGOOD2, 15 PGOOD3, 16 RT, 17 RUN1, 18 RUN2, 19 RUN3, 20 39 GND, 21 BIAS, 22 TRACK/SS3, 23 VC3, 24 FB3, 25 TRACK/SS2, 26 FB2, 28 VC2, 29 DRIVE, 30 FB4, 31 TRACK/SS4, 32 BOOST2, 33 SW2, 35 36 VIN2, 37 BOOST3, 38 SW3

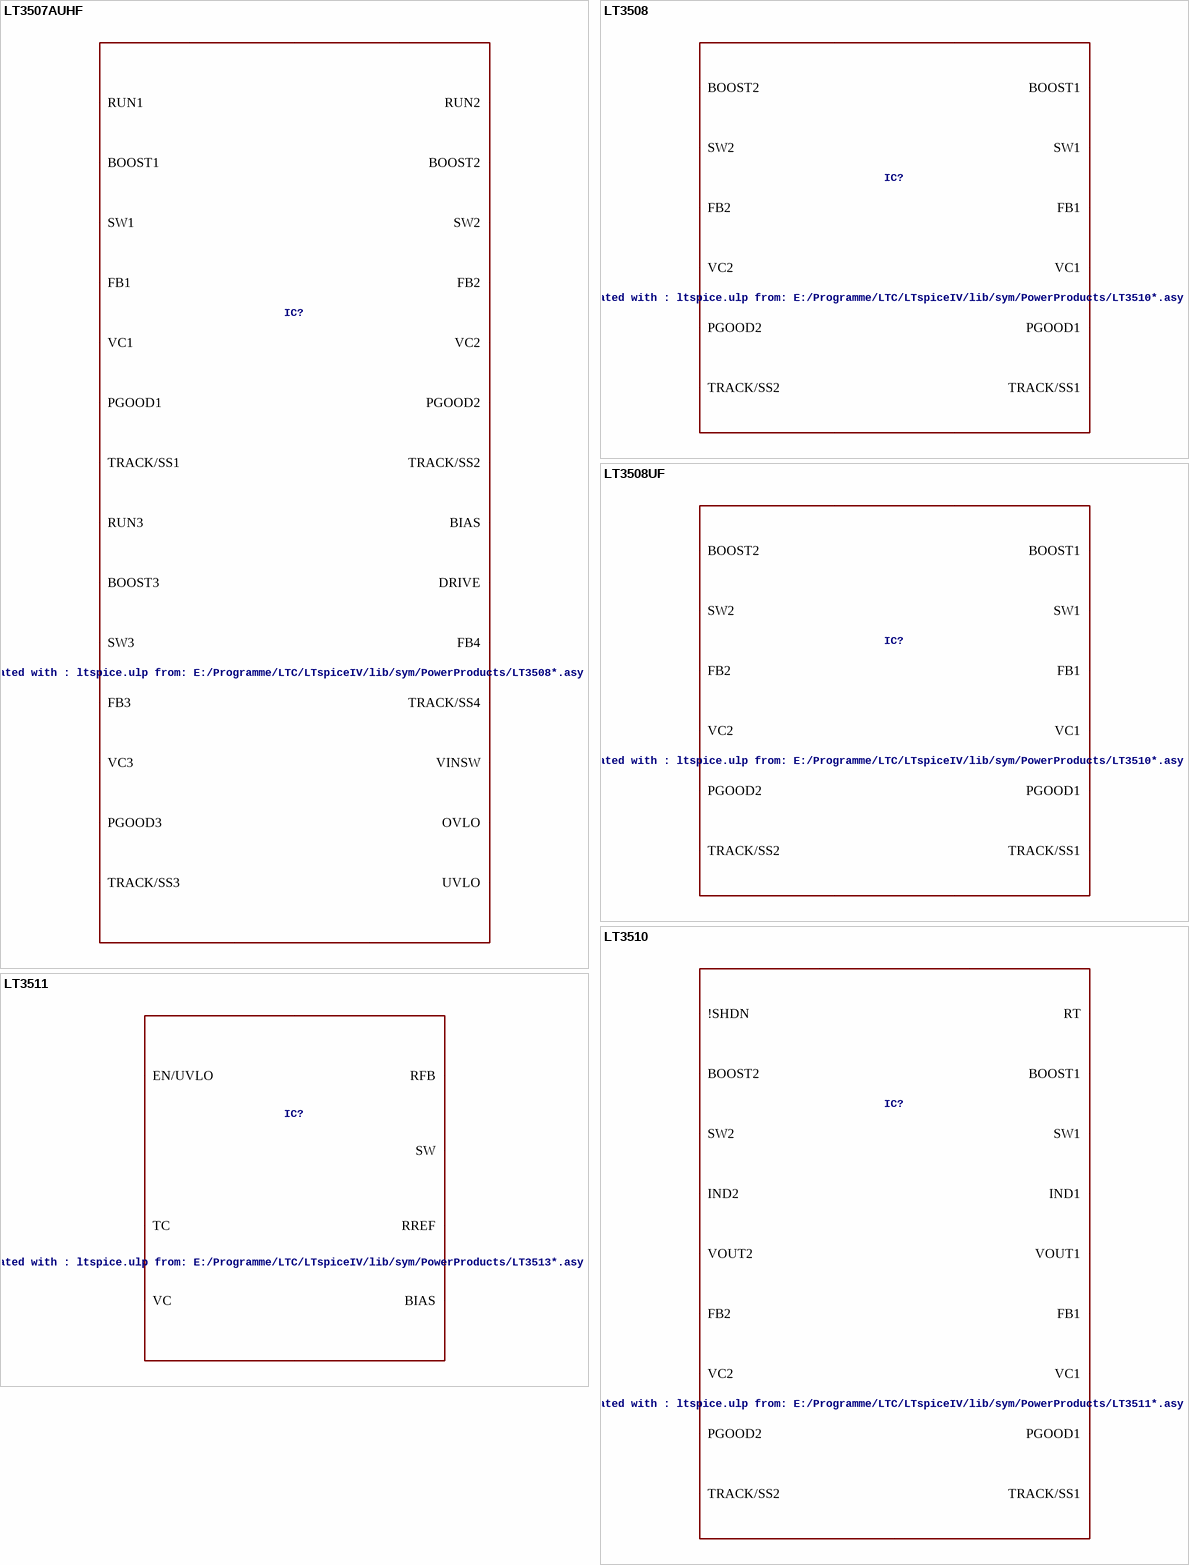
[diagram p16: symbols LT3507AUHF to LT3511]

## LT3507AUHF
designator IC?, comment LT-Spice library generated with : ltspice.ulp from: E:/Programme/LTC/LTspiceIV/lib/sym/PowerProducts/LT3508*.asy at 05.10.2012 12:29:29
VALUE2: LT3507A; SPICEMODEL: LT3507A.sub; SPICEPREFIX: X
footprint QFN38(UHF)
pins: 1 BOOST1, 2 3 VIN1, 4 VINSW, 5 OVLO, 6 UVLO, 7 VC1, 8 TRACK/SS1, 9 FB1, 10 PGOOD1, 11 PGOOD2, 12 PGOOD3, 13 RT, 14 RUN1, 15 RUN2, 16 RUN3, 17 BIAS, 18 TRACK/SS3, 19 VC3, 20 FB3, 21 TRACK/SS2, 22 FB2, 23 VC2, 24 DRIVE, 25 FB4, 26 TRACK/SS4, 27 BOOST2, 28 29 SW2, 30 31 VIN2, 32 BOOST3, 33 34 SW3, 35 36 VIN3, 37 38 SW1, 39 GND

## LT3508
designator IC?, comment LT-Spice library generated with : ltspice.ulp from: E:/Programme/LTC/LTspiceIV/lib/sym/PowerProducts/LT3510*.asy at 05.10.2012 12:29:37
VALUE2: LT3508; SPICEMODEL: LT3508.sub; SPICEPREFIX: X
footprint TSSOP16BA(FE)
pins: 1 TRACK/SS1, 2 BOOST1, 3 SW1, 4 5 VIN, 6 SW2, 7 BOOST2, 8 TRACK/SS2, 9 FB2, 10 VC2, 11 PGOOD2, 12 !SHDN, 13 RT, 14 PGOOD1, 15 VC1, 16 FB1, 17 GND

## LT3508UF
designator IC?, comment LT-Spice library generated with : ltspice.ulp from: E:/Programme/LTC/LTspiceIV/lib/sym/PowerProducts/LT3510*.asy at 05.10.2012 12:29:37
VALUE2: LT3508; SPICEMODEL: LT3508.sub; SPICEPREFIX: X
footprint QFN24(UF)
pins: 1 FB1, 2 TRACK/SS1, 3 4 5 6 13 14 15 16 25 GND, 7 BOOST1, 8 SW1, 9 10 VIN, 11 SW2, 12 BOOST2, 17 TRACK/SS2, 18 FB2, 19 VC2, 20 PGOOD2, 21 !SHDN, 22 RT, 23 PGOOD1, 24 VC1

## LT3510
designator IC?, comment LT-Spice library generated with : ltspice.ulp from: E:/Programme/LTC/LTspiceIV/lib/sym/PowerProducts/LT3511*.asy at 05.10.2012 12:29:55
VALUE2: LT3510; SPICEMODEL: LT3510.sub; SPICEPREFIX: X
footprint TSSOP20CA(FE)
pins: 1 VIN1, 2 SW1, 3 IND1, 4 VOUT1, 5 PGOOD1, 6 PGOOD2, 7 VOUT2, 8 IND2, 9 SW2, 10 VIN2, 11 BOOST2, 12 TRACK/SS2, 13 VC2, 14 FB2, 15 !SHDN, 16 RT, 17 FB1, 18 VC1, 19 TRACK/SS1, 20 BOOST1, 21 GND

## LT3511
designator IC?, comment LT-Spice library generated with : ltspice.ulp from: E:/Programme/LTC/LTspiceIV/lib/sym/PowerProducts/LT3513*.asy at 05.10.2012 12:30:02
VALUE2: LT3511; SPICEMODEL: LT3511.sub; SPICEPREFIX: X
footprint MSOP16-12(MS)
pins: 1 EN/UVLO, 3 VIN, 5 8 9 GND, 6 BIAS, 10 VC, 11 TC, 12 RREF, 14 RFB, 16 SW

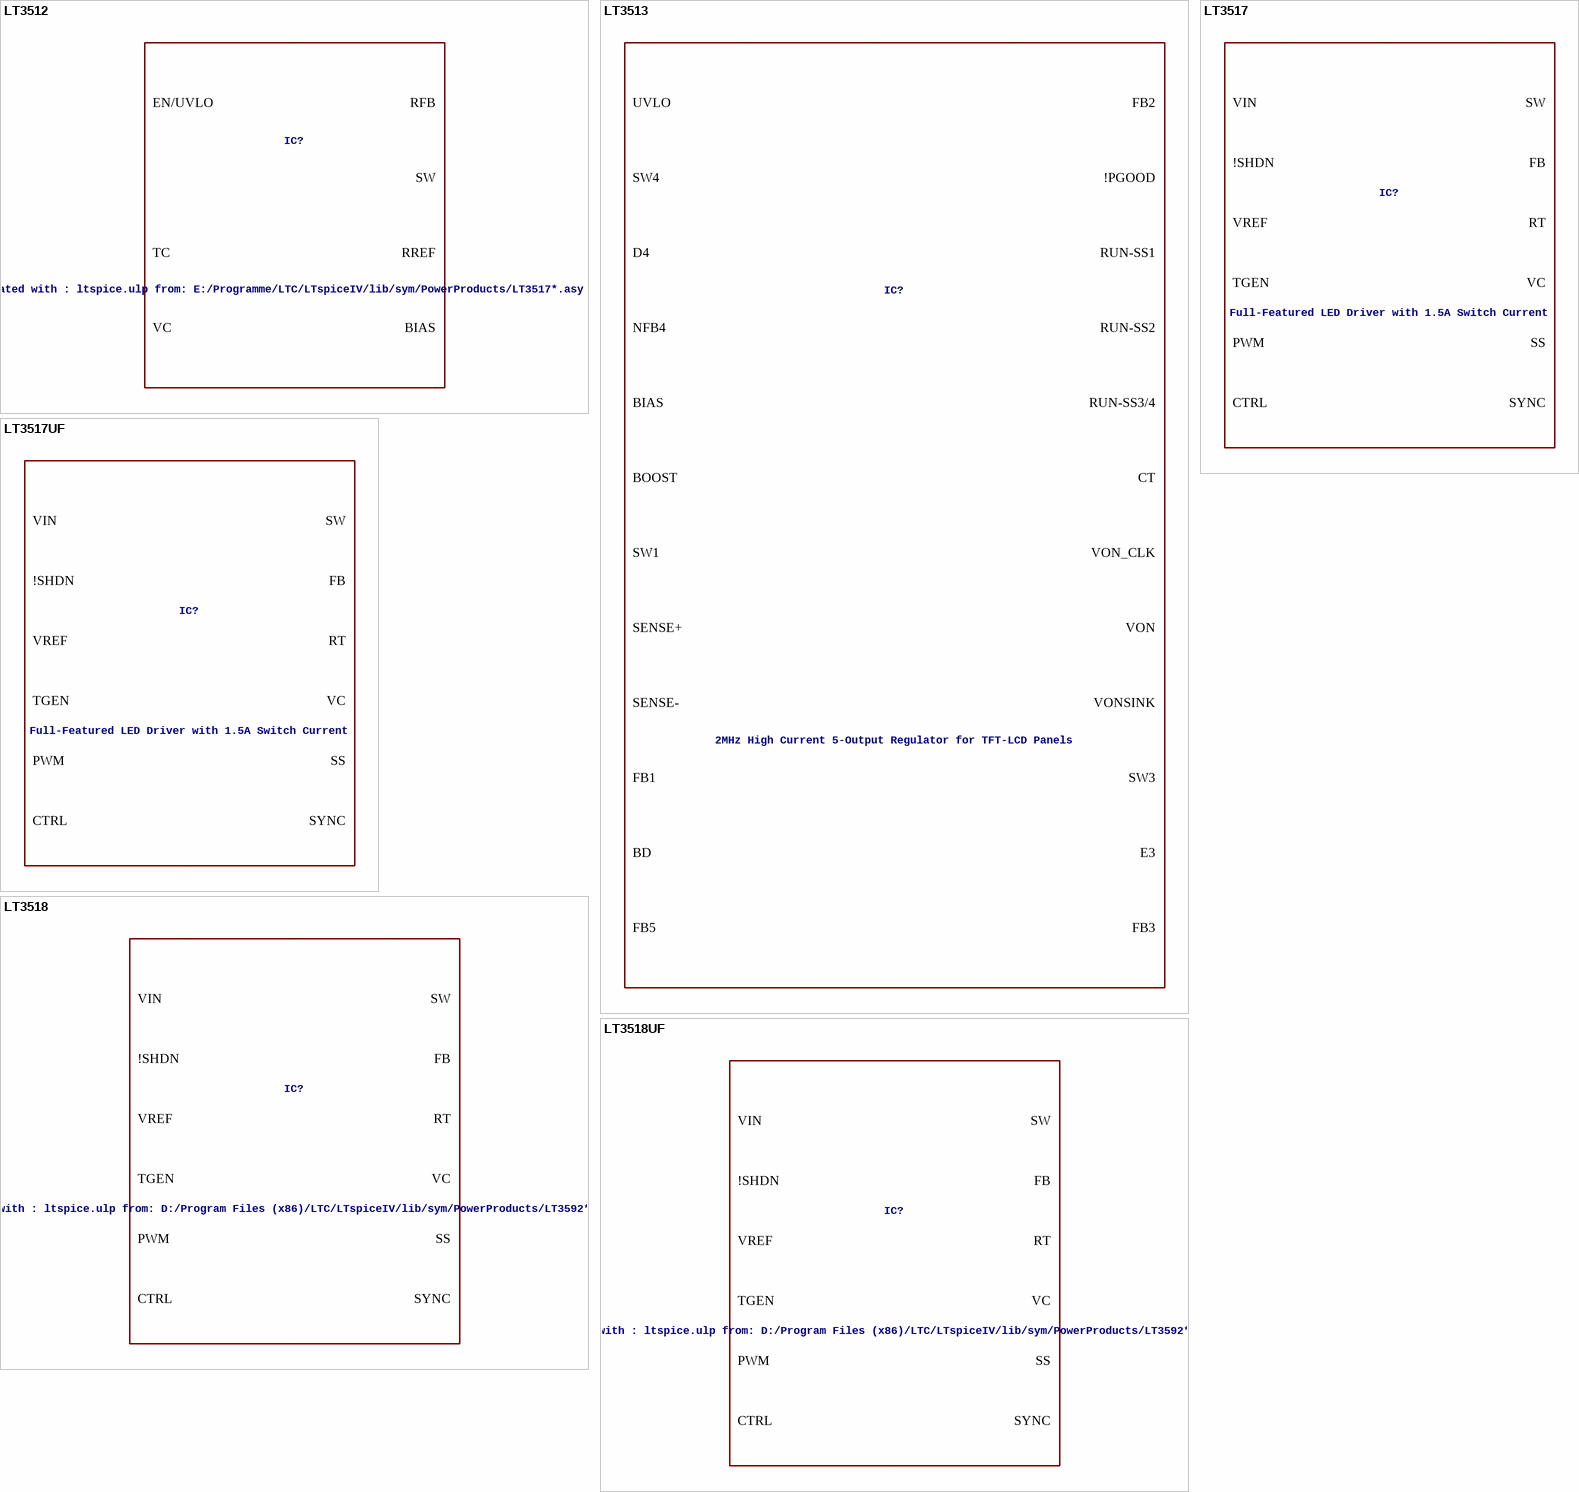
[diagram p17: symbols LT3512 to LT3518UF]

## LT3512
designator IC?, comment LT-Spice library generated with : ltspice.ulp from: E:/Programme/LTC/LTspiceIV/lib/sym/PowerProducts/LT3517*.asy at 05.10.2012 12:30:23
VALUE2: LT1762; SPICEMODEL: LT1762.lib; SPICEPREFIX: X
footprint MSOP16-12(MS)
pins: 1 EN/UVLO, 3 VIN, 5 8 9 GND, 6 BIAS, 10 VC, 11 TC, 12 RREF, 14 RFB, 16 SW

## LT3513
designator IC?, comment 2MHz High Current 5-Output Regulator for TFT-LCD Panels
VALUE2: LT3513; SPICEMODEL: LT3513.sub; SPICEPREFIX: X
footprint QFN38(UHF)
pins: 1 FB5, 2 VC1, 3 RUN-SS3/4, 4 FB3, 5 RUN-SS2, 6 SW3, 7 E3, 8 VON, 9 VONSINK, 10 VON_CLK, 11 !PGOOD, 12 VC3, 13 CT, 14 17 33 39 GND, 15 16 SW2, 18 29 BIAS, 19 FB2, 20 VC2, 21 VC4, 22 RUN-SS1, 23 NFB4, 24 D4, 25 SW4, 26 BD, 27 LDOPWR, 28 BOOST, 30 SENSE-, 31 SENSE+, 32 FB1, 34 35 SW1, 36 37 VIN, 38 UVLO

## LT3517
designator IC?, comment Full-Featured LED Driver with 1.5A Switch Current
VALUE2: LT3517; SPICEMODEL: LT3517.sub; SPICEPREFIX: X
footprint TSSOP16BA(FE)
pins: 1 VIN, 2 !SHDN, 3 VREF, 4 RT, 5 SYNC, 6 SS, 7 PWM, 8 CTRL, 9 VC, 10 FB, 11 TGEN, 12 ISN, 13 ISP, 14 TG, 15 16 SW, 17 GND

## LT3517UF
designator IC?, comment Full-Featured LED Driver with 1.5A Switch Current
VALUE2: LT3517; SPICEMODEL: LT3517.sub; SPICEPREFIX: X
footprint QFN16(UF)
pins: 1 2 SW, 3 VIN, 4 !SHDN, 5 VREF, 6 RT, 7 SYNC, 8 SS, 9 PWM, 10 CTRL, 11 VC, 12 FB, 13 TGEN, 14 ISN, 15 ISP, 16 TG, 17 GND

## LT3518
designator IC?, comment LT-Spice library generated with : ltspice.ulp from: D:/Program Files (x86)/LTC/LTspiceIV/lib/sym/PowerProducts/LT3592*.asy at 07.10.2012 16:20:52
VALUE2: LT3518; SPICEMODEL: LT3518.lib; SPICEPREFIX: X
footprint TSSOP16BA(FE)
pins: 1 VIN, 2 !SHDN, 3 VREF, 4 RT, 5 SYNC, 6 SS, 7 PWM, 8 CTRL, 9 VC, 10 FB, 11 TGEN, 12 ISN, 13 ISP, 14 TG, 15 16 SW, 17 GND

## LT3518UF
designator IC?, comment LT-Spice library generated with : ltspice.ulp from: D:/Program Files (x86)/LTC/LTspiceIV/lib/sym/PowerProducts/LT3592*.asy at 07.10.2012 16:20:52
VALUE2: LT1762; SPICEMODEL: LT1762.lib; SPICEPREFIX: X
footprint QFN16(UF)
pins: 1 2 SW, 3 VIN, 4 !SHDN, 5 VREF, 6 RT, 7 SYNC, 8 SS, 9 PWM, 10 CTRL, 11 VC, 12 FB, 13 TGEN, 14 ISN, 15 ISP, 16 TG, 17 GND

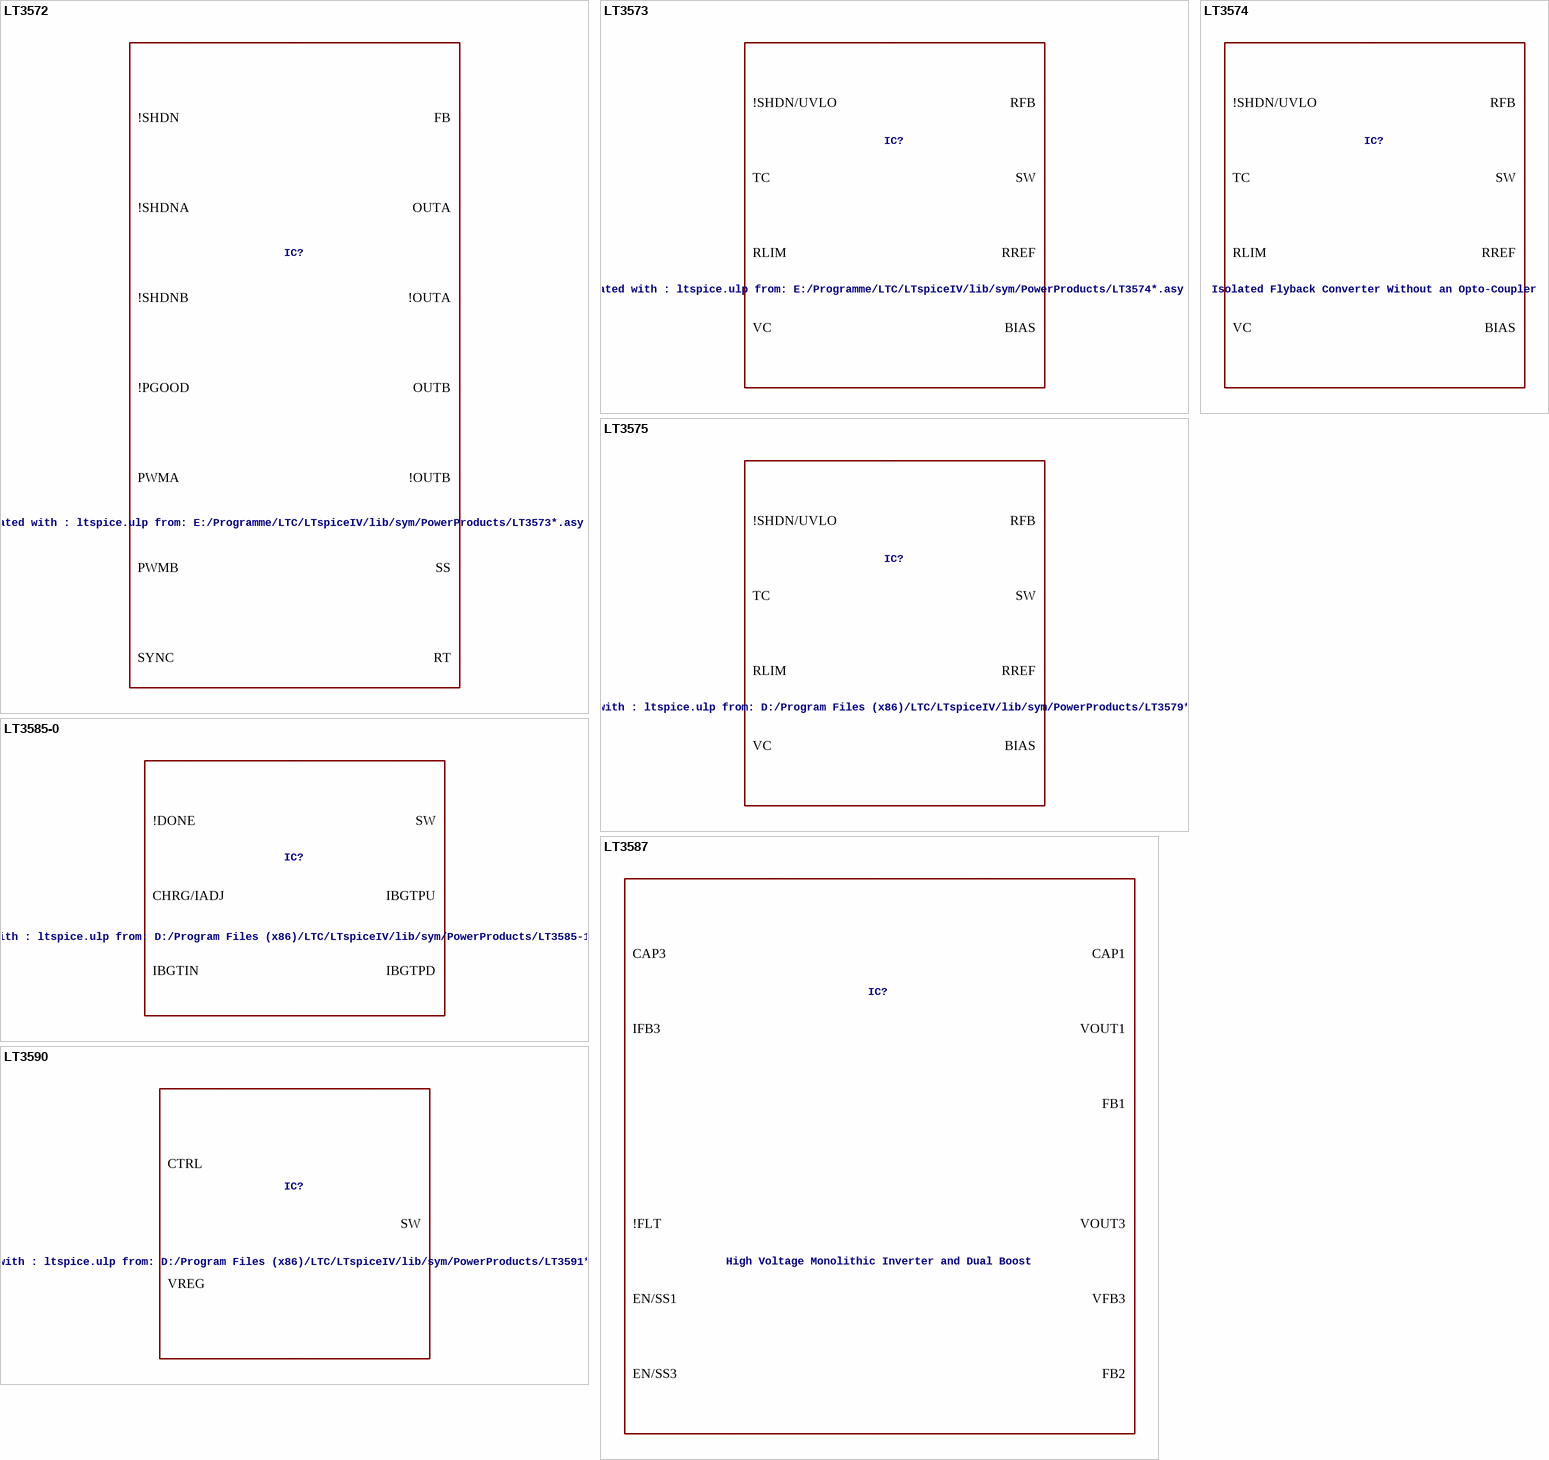
[diagram p18: symbols LT3572 to LT3590]

## LT3572
designator IC?, comment LT-Spice library generated with : ltspice.ulp from: E:/Programme/LTC/LTspiceIV/lib/sym/PowerProducts/LT3573*.asy at 05.10.2012 12:31:07
VALUE2: LT3572; SPICEMODEL: LT3572.sub; SPICEPREFIX: X
footprint QFN20(UF)
pins: 1 SW, 2 VIN, 3 SYNC, 4 RT, 5 9 20 21 GND, 6 PWMB, 7 PWMA, 8 VOUT, 10 !SHDN, 11 !SHDNA, 12 !SHDNB, 13 FB, 14 SS, 15 !PGOOD, 16 !OUTB, 17 OUTB, 18 OUTA, 19 !OUTA

## LT3573
designator IC?, comment LT-Spice library generated with : ltspice.ulp from: E:/Programme/LTC/LTspiceIV/lib/sym/PowerProducts/LT3574*.asy at 05.10.2012 12:31:18
VALUE2: LT3573; SPICEMODEL: LT3573.sub; SPICEPREFIX: X
footprint MSOP16(MSE)
pins: 1 2 3 8 9 16 17 GND, 4 SW, 5 VIN, 6 BIAS, 7 !SHDN/UVLO, 10 SS, 11 RLIM, 12 VC, 13 RFB, 14 RREF, 15 TC

## LT3574
designator IC?, comment Isolated Flyback Converter Without an Opto-Coupler
VALUE2: LT3574; SPICEMODEL: LT3574.sub; SPICEPREFIX: X
footprint MSOP16(MS)
pins: 1 2 3 8 9 16 GND, 4 SW, 5 VIN, 6 BIAS, 7 !SHDN/UVLO, 10 SS, 11 RLIM, 12 VC, 13 RFB, 14 RREF, 15 TC

## LT3575
designator IC?, comment LT-Spice library generated with : ltspice.ulp from: D:/Program Files (x86)/LTC/LTspiceIV/lib/sym/PowerProducts/LT3579*.asy at 07.10.2012 16:12:01
VALUE2: LT3575; SPICEMODEL: LT3575.sub; SPICEPREFIX: X
footprint TSSOP16BA(FE)
pins: 2 VIN, 3 4 SW, 5 BIAS, 6 !SHDN/UVLO, 7 SS, 8 RLIM, 9 VC, 10 RFB, 11 RREF, 12 TC, 13 14 17 GND

## LT3585-0
designator IC?, comment LT-Spice library generated with : ltspice.ulp from: D:/Program Files (x86)/LTC/LTspiceIV/lib/sym/PowerProducts/LT3585-1*.asy at 07.10.2012 16:14:08
VALUE2: LT3585-0; SPICEMODEL: LT3585-0.sub; SPICEPREFIX: X
footprint DFN10(DDB)
pins: 1 IBGTIN, 2 IBGTPWR, 3 11 GND, 4 VIN, 5 VBAT, 6 !DONE, 7 CHRG/IADJ, 8 SW, 9 IBGTPD, 10 IBGTPU

## LT3587
designator IC?, comment High Voltage Monolithic Inverter and Dual Boost
VALUE2: LT3587; SPICEMODEL: LT3587.sub; SPICEPREFIX: X
footprint QFN20(UD)
pins: 1 VOUT3, 2 CAP3, 3 SW3, 4 7 8 12 21 GND, 5 !FLT, 6 FB2, 9 SW2, 11 SW1, 13 CAP1, 14 VOUT1, 15 FB1, 16 EN/SS1, 17 VIN, 18 EN/SS3, 19 IFB3, 20 VFB3

## LT3590
designator IC?, comment LT-Spice library generated with : ltspice.ulp from: D:/Program Files (x86)/LTC/LTspiceIV/lib/sym/PowerProducts/LT3591*.asy at 07.10.2012 16:15:24
VALUE2: LT1762; SPICEMODEL: LT1762.lib; SPICEPREFIX: X
footprint DFN6(DC)
pins: 1 CTRL, 2 7 GND, 3 SW, 4 VIN, 5 LED, 6 VREG

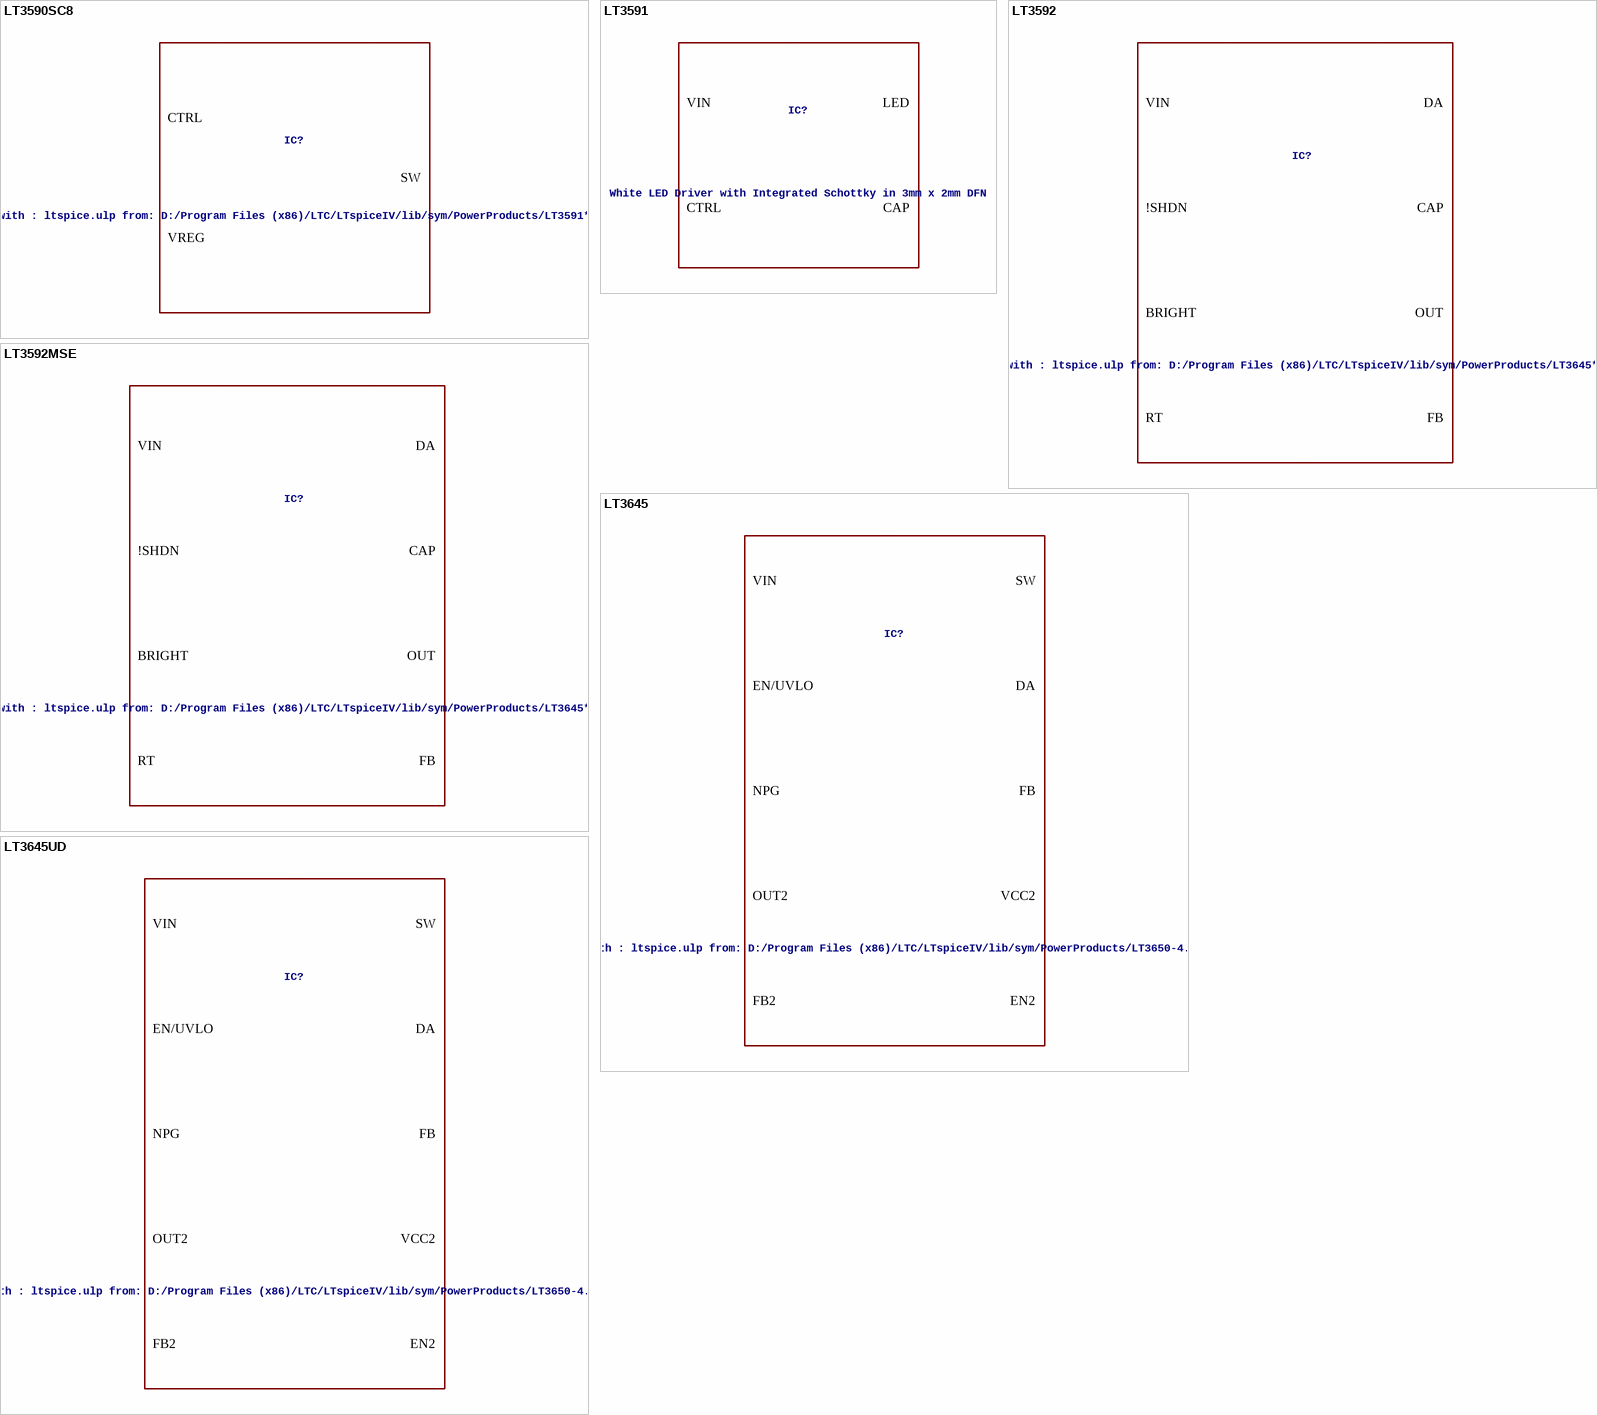
[diagram p19: symbols LT3590SC8 to LT3645UD]

## LT3590SC8
designator IC?, comment LT-Spice library generated with : ltspice.ulp from: D:/Program Files (x86)/LTC/LTspiceIV/lib/sym/PowerProducts/LT3591*.asy at 07.10.2012 16:15:24
VALUE2: LT1762; SPICEMODEL: LT1762.lib; SPICEPREFIX: X
footprint SOT8(SC8)
pins: 1 SW, 2 3 4 GND, 5 CTRL, 6 VREG, 7 LED, 8 VIN

## LT3591
designator IC?, comment White LED Driver with Integrated Schottky in 3mm x 2mm DFN
VALUE2: LT3591; SPICEMODEL: LT3591.sub; SPICEPREFIX: X
footprint DFN8(DDB)
pins: 1 VIN, 2 9 GND, 4 SW, 5 CAP, 7 LED, 8 CTRL

## LT3592
designator IC?, comment LT-Spice library generated with : ltspice.ulp from: D:/Program Files (x86)/LTC/LTspiceIV/lib/sym/PowerProducts/LT3645*.asy at 07.10.2012 16:21:44
VALUE2: LT3592; SPICEMODEL: LT3592.sub; SPICEPREFIX: X
footprint DFN10(DDB)
pins: 1 RT, 2 BRIGHT, 3 !SHDN, 4 VIN, 5 DA, 6 SW, 7 BOOST, 8 CAP, 9 OUT, 10 FB, 11 GND